# Altium schematic symbol library IC.SCHLIB: 146 symbols (part 1 of 2)
Pins are listed as number, name and electrical type; pins without a type are passive.

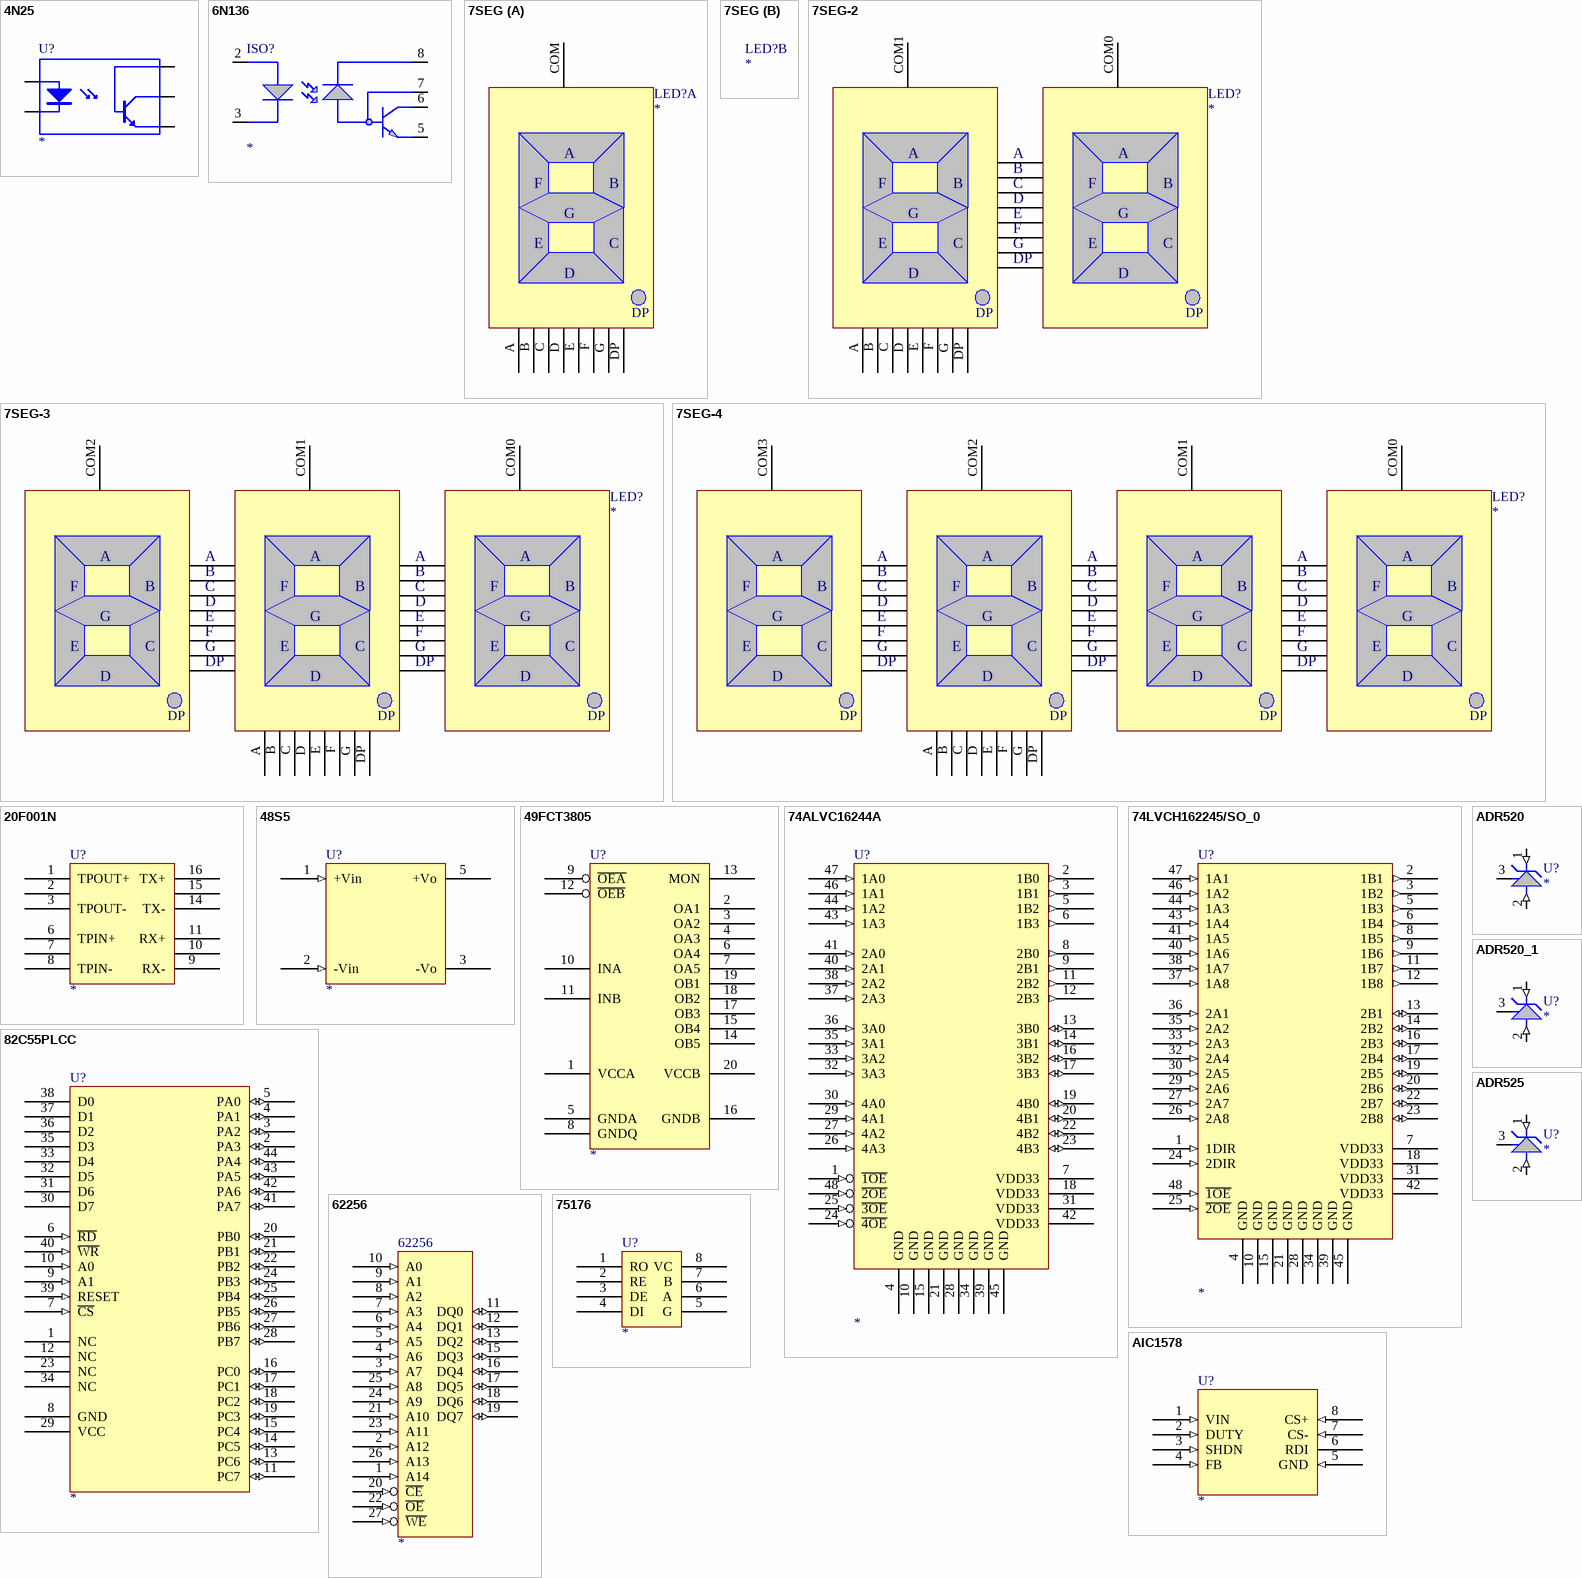
[diagram p0: symbols 4N25 to AIC1578]

## 4N25
designator U?
Optoisolator
pins: 1 A, 2 K, 4 E, 5 C, 6 B

## 6N136
designator ISO?
Text Field1: 110; Text Field2: 50
pins: 2, 3, 5, 6, 7, 8

## 7SEG
designator LED?
7SEG LED DIGIT
footprint 7SEG.5
footprint 7SEG.36
part A pins: A, B, C, COM, D, DP, E, F, G

## 7SEG-2
designator LED?
pins: A, B, C, COM0, COM1, D, DP, E, F, G

## 7SEG-3
designator LED?
LED
footprint SP2204019
pins: A, B, C, COM0, COM1, COM2, D, DP, E, F, G

## 7SEG-4
designator LED?
pins: A, B, C, COM0, COM1, COM2, COM3, D, DP, E, F, G

## 20F001N
designator U?
footprint DIP16
pins: 1 TPOUT+, 2, 3 TPOUT-, 6 TPIN+, 7, 8 TPIN-, 9 RX-, 10, 11 RX+, 14 TX-, 15, 16 TX+

## 48S5
designator U?
Text Field1: 80; Text Field2: 80
pins: 1 +Vin (in), 2 -Vin (in), 3 -Vo (power), 4 NC (hiz) hidden to NC, 5 +Vo (power)

## 49FCT3805
designator U?
3.3V CMOS BUFFER/CLOCK DRIVER
footprint SO20
pins: 1 VCCA, 2 OA1, 3 OA2, 4 OA3, 5 GNDA, 6 OA4, 7 OA5, 8 GNDQ, 9 ~{OEA}, 10 INA, 11 INB, 12 ~{OEB}, 13 MON, 14 OB5, 15 OB4, 16 GNDB, 17 OB3, 18 OB2, 19 OB1, 20 VCCB

## 74ALVC16244A
designator U?
74ALVC16244A; Text Field1: 110; Text Field2: 240
footprint TSSOP48
footprint SSOP48
pins: 1 ~{1OE} (in), 2 1B0 (out), 3 1B1 (out), 4 GND (power), 5 1B2 (out), 6 1B3 (out), 7 VDD33 (power), 8 2B0 (out), 9 2B1 (out), 10 GND (power), 11 2B2 (out), 12 2B3 (out), 13 3B0 (io), 14 3B1 (io), 15 GND (power), 16 3B2 (io), 17 3B3 (io), 18 VDD33 (power), 19 4B0 (io), 20 4B1 (io), 21 GND (power), 22 4B2 (io), 23 4B3 (io), 24 ~{4OE} (in), 25 ~{3OE} (in), 26 4A3 (in), 27 4A2 (in), 28 GND (power), 29 4A1 (in), 30 4A0 (in), 31 VDD33 (power), 32 3A3 (in), 33 3A2 (in), 34 GND (power), 35 3A1 (in), 36 3A0 (in), 37 2A3 (in), 38 2A2 (in), 39 GND (power), 40 2A1 (in), 41 2A0 (in), 42 VDD33 (power), 43 1A3 (in), 44 1A2 (in), 45 GND (power), 46 1A1 (in), 47 1A0 (in), 48 ~{2OE} (in)

## 74LVCH162245/SO_0
designator U?
Text Field1: 110; Text Field2: 240
footprint TSSOP48
footprint SSOP48
pins: 1 1DIR (in), 2 1B1 (out), 3 1B2 (out), 4 GND (power), 5 1B3 (out), 6 1B4 (out), 7 VDD33 (power), 8 1B5 (out), 9 1B6 (out), 10 GND (power), 11 1B7 (out), 12 1B8 (out), 13 2B1 (io), 14 2B2 (io), 15 GND (power), 16 2B3 (io), 17 2B4 (io), 18 VDD33 (power), 19 2B5 (io), 20 2B6 (io), 21 GND (power), 22 2B7 (io), 23 2B8 (io), 24 2DIR (in), 25 ~{2OE} (in), 26 2A8 (in), 27 2A7 (in), 28 GND (power), 29 2A6 (in), 30 2A5 (in), 31 VDD33 (power), 32 2A4 (in), 33 2A3 (in), 34 GND (power), 35 2A2 (in), 36 2A1 (in), 37 1A8 (in), 38 1A7 (in), 39 GND (power), 40 1A6 (in), 41 1A5 (in), 42 VDD33 (power), 43 1A4 (in), 44 1A3 (in), 45 GND (power), 46 1A2 (in), 47 1A1 (in), 48 ~{1OE} (in)

## 82C55PLCC
designator U?
footprint DIP-40
pins: 1 NC, 2 PA3 (io), 3 PA2 (io), 4 PA1 (io), 5 PA0 (io), 6 ~{RD} (in), 7 ~{CS} (in), 8 GND, 9 A1 (in), 10 A0 (in), 11 PC7 (io), 12 NC, 13 PC6 (io), 14 PC5 (io), 15 PC4 (io), 16 PC0 (io), 17 PC1 (io), 18 PC2 (io), 19 PC3 (io), 20 PB0 (io), 21 PB1 (io), 22 PB2 (io), 23 NC, 24 PB3 (io), 25 PB4 (io), 26 PB5 (io), 27 PB6 (io), 28 PB7 (io), 29 VCC, 30 D7 (hiz), 31 D6 (hiz), 32 D5 (hiz), 33 D4 (hiz), 34 NC, 35 D3 (hiz), 36 D2 (hiz), 37 D1 (hiz), 38 D0 (hiz), 39 RESET (in), 40 ~{WR} (in), 41 PA7 (io), 42 PA6 (io), 43 PA5 (io), 44 PA4 (io)

## 62256
designator 62256
pins: 1 A14 (in), 2 A12 (in), 3 A7 (in), 4 A6 (in), 5 A5 (in), 6 A4 (in), 7 A3 (in), 8 A2 (in), 9 A1 (in), 10 A0 (in), 11 DQ0 (io), 12 DQ1 (io), 13 DQ2 (io), 14 GND (power) hidden to GND, 15 DQ3 (io), 16 DQ4 (io), 17 DQ5 (io), 18 DQ6 (io), 19 DQ7 (io), 20 ~{CE} (in), 21 A10 (in), 22 ~{OE} (in), 23 A11 (in), 24 A9 (in), 25 A8 (in), 26 A13 (in), 27 ~{WE} (in), 28 VCC hidden to VCC, 28 VCC (power) hidden to VCC

## 75176
designator U?
footprint SO8
pins: 1 RO, 2 RE, 3 DE, 4 DI, 5 G, 6 A, 7 B, 8 VC

## ADR520
designator U?
Text Field1: 22; Text Field2: 22
footprint SOT23
pins: 1 K (in), 2 A (in), 3 R

## ADR520_1
designator U?
Text Field1: 22; Text Field2: 22
footprint SOT23
pins: 1 K (in), 2 A (in), 3 R

## ADR525
designator U?
Text Field1: 22; Text Field2: 22
footprint SOT23
pins: 1 K (in), 2 A (in), 3 R

## AIC1578
designator U?
Text Field1: 80; Text Field2: 70
pins: 1 VIN (in), 2 DUTY (in), 3 SHDN (in), 4 FB (in), 5 GND (in), 6 RDI, 7 CS- (in), 8 CS+ (in)

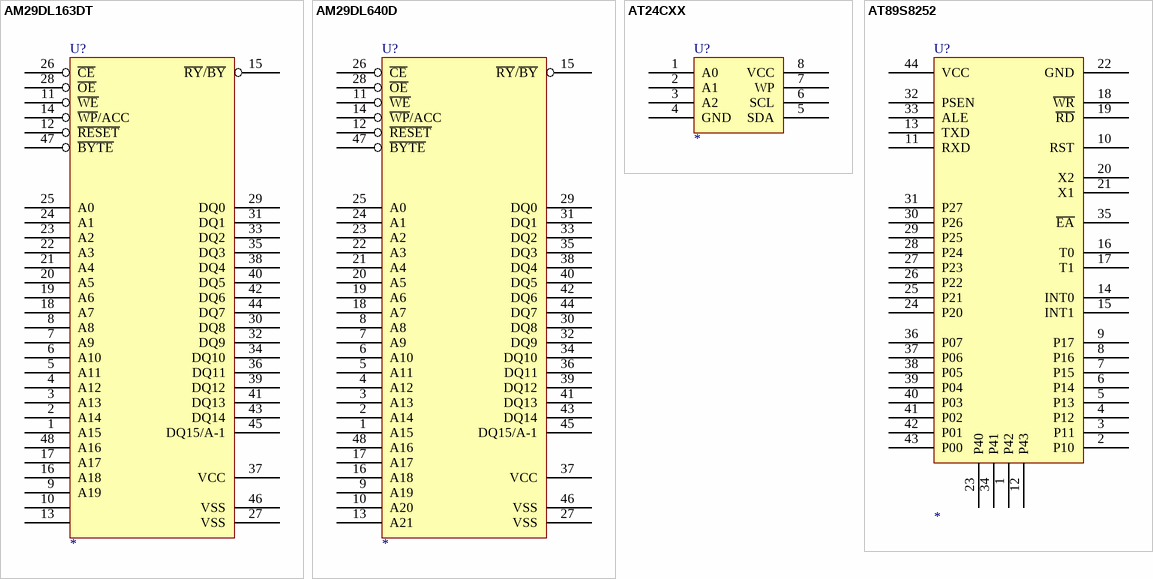
[diagram p1: symbols AM29DL163DT to AT89S8252]

## AM29DL163DT
designator U?
64 Megabit (8 M x 8-Bit/4 M x 16-Bit)CMOS 3.0 Volt-only, Simultaneous Read/Write Flash Memory
footprint TSOP48
pins: 1 A15, 2 A14, 3 A13, 4 A12, 5 A11, 6 A10, 7 A9, 8 A8, 9 A19, 10, 11 ~{WE}, 12 ~{RESET}, 13, 14 ~{WP}/ACC, 15 ~{RY}/~{BY}, 16 A18, 17 A17, 18 A7, 19 A6, 20 A5, 21 A4, 22 A3, 23 A2, 24 A1, 25 A0, 26 ~{CE}, 27 VSS, 28 ~{OE}, 29 DQ0, 30 DQ8, 31 DQ1, 32 DQ9, 33 DQ2, 34 DQ10, 35 DQ3, 36 DQ11, 37 VCC, 38 DQ4, 39 DQ12, 40 DQ5, 41 DQ13, 42 DQ6, 43 DQ14, 44 DQ7, 45 DQ15/A-1, 46 VSS, 47 ~{BYTE}, 48 A16

## AM29DL640D
designator U?
64 Megabit (8 M x 8-Bit/4 M x 16-Bit)CMOS 3.0 Volt-only, Simultaneous Read/Write Flash Memory
footprint TSOP48
pins: 1 A15, 2 A14, 3 A13, 4 A12, 5 A11, 6 A10, 7 A9, 8 A8, 9 A19, 10 A20, 11 ~{WE}, 12 ~{RESET}, 13 A21, 14 ~{WP}/ACC, 15 ~{RY}/~{BY}, 16 A18, 17 A17, 18 A7, 19 A6, 20 A5, 21 A4, 22 A3, 23 A2, 24 A1, 25 A0, 26 ~{CE}, 27 VSS, 28 ~{OE}, 29 DQ0, 30 DQ8, 31 DQ1, 32 DQ9, 33 DQ2, 34 DQ10, 35 DQ3, 36 DQ11, 37 VCC, 38 DQ4, 39 DQ12, 40 DQ5, 41 DQ13, 42 DQ6, 43 DQ14, 44 DQ7, 45 DQ15/A-1, 46 VSS, 47 ~{BYTE}, 48 A16

## AT24CXX
designator U?
footprint DIP8
footprint SO-8
pins: 1 A0, 2 A1, 3 A2, 4 GND, 5 SDA, 6 SCL, 7 WP, 8 VCC

## AT89S8252
designator U?
footprint DIP40
footprint PLCC44
pins: 1 P42, 2 P10, 3 P11, 4 P12, 5 P13, 6 P14, 7 P15, 8 P16, 9 P17, 10 RST, 11 RXD, 12 P43, 13 TXD, 14 INT0, 15 INT1, 16 T0, 17 T1, 18 ~{WR}, 19 ~{RD}, 20 X2, 21 X1, 22 GND, 23 P40, 24 P20, 25 P21, 26 P22, 27 P23, 28 P24, 29 P25, 30 P26, 31 P27, 32 PSEN, 33 ALE, 34 P41, 35 ~{EA}, 36 P07, 37 P06, 38 P05, 39 P04, 40 P03, 41 P02, 42 P01, 43 P00, 44 VCC

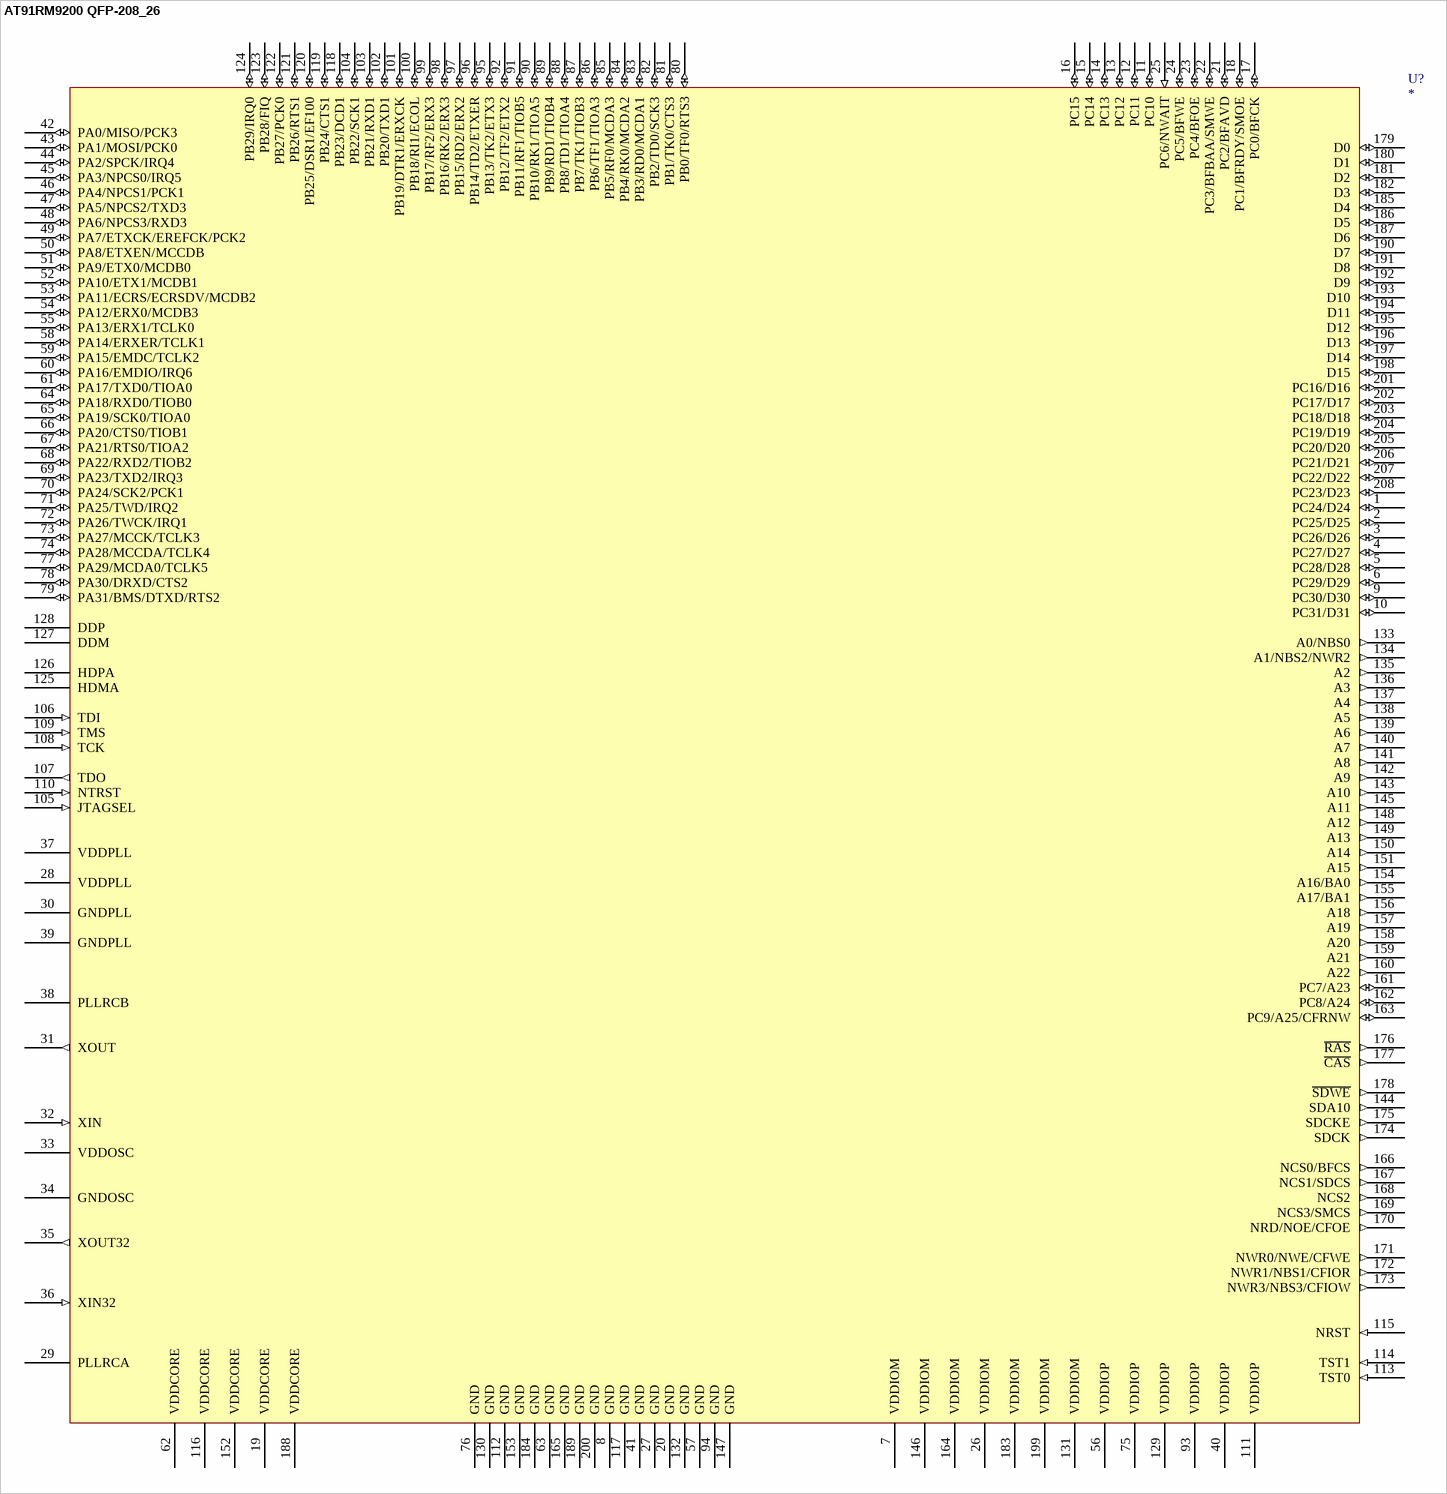
[diagram p2: symbol AT91RM9200 QFP-208_26]

## AT91RM9200 QFP-208_26
designator U?
Text Field1: 860; Text Field2: 890
footprint PQFP208
pins: 1 PC24/D24 (io), 2 PC25/D25 (io), 3 PC26/D26 (io), 4 PC27/D27 (io), 5 PC28/D28 (io), 6 PC29/D29 (io), 7 VDDIOM (power), 8 GND (power), 9 PC30/D30 (io), 10 PC31/D31 (io), 11 PC10 (io), 12 PC11 (io), 13 PC12 (io), 14 PC13 (io), 15 PC14 (io), 16 PC15 (io), 17 PC0/BFCK (io), 18 PC1/BFRDY/SMOE (io), 19 VDDCORE (power), 20 GND (power), 21 PC2/BFAVD (io), 22 PC3/BFBAA/SMWE (io), 23 PC4/BFOE (io), 24 PC5/BFWE (io), 25 PC6/NWAIT (in), 26 VDDIOM (power), 27 GND (power), 28 VDDPLL (power), 29 PLLRCA (power), 30 GNDPLL (power), 31 XOUT (out), 32 XIN (in), 33 VDDOSC (power), 34 GNDOSC (power), 35 XOUT32 (out), 36 XIN32 (in), 37 VDDPLL (power), 38 PLLRCB (power), 39 GNDPLL (power), 40 VDDIOP (power), 41 GND (power), 42 PA0/MISO/PCK3 (io), 43 PA1/MOSI/PCK0 (io), 44 PA2/SPCK/IRQ4 (io), 45 PA3/NPCS0/IRQ5 (io), 46 PA4/NPCS1/PCK1 (io), 47 PA5/NPCS2/TXD3 (io), 48 PA6/NPCS3/RXD3 (io), 49 PA7/ETXCK/EREFCK/PCK2 (io), 50 PA8/ETXEN/MCCDB (io), 51 PA9/ETX0/MCDB0 (io), 52 PA10/ETX1/MCDB1 (io), 53 PA11/ECRS/ECRSDV/MCDB2 (io), 54 PA12/ERX0/MCDB3 (io), 55 PA13/ERX1/TCLK0 (io), 56 VDDIOP (power), 57 GND (power), 58 PA14/ERXER/TCLK1 (io), 59 PA15/EMDC/TCLK2 (io), 60 PA16/EMDIO/IRQ6 (io), 61 PA17/TXD0/TIOA0 (io), 62 VDDCORE (power), 63 GND (power), 64 PA18/RXD0/TIOB0 (io), 65 PA19/SCK0/TIOA0 (io), 66 PA20/CTS0/TIOB1 (io), 67 PA21/RTS0/TIOA2 (io), 68 PA22/RXD2/TIOB2 (io), 69 PA23/TXD2/IRQ3 (io), 70 PA24/SCK2/PCK1 (io), 71 PA25/TWD/IRQ2 (io), 72 PA26/TWCK/IRQ1 (io), 73 PA27/MCCK/TCLK3 (io), 74 PA28/MCCDA/TCLK4 (io), 75 VDDIOP (power), 76 GND (power), 77 PA29/MCDA0/TCLK5 (io), 78 PA30/DRXD/CTS2 (io), 79 PA31/BMS/DTXD/RTS2 (io), 80 PB0/TF0/RTS3 (io), 81 PB1/TK0/CTS3 (io), 82 PB2/TD0/SCK3 (io), 83 PB3/RD0/MCDA1 (io), 84 PB4/RK0/MCDA2 (io), 85 PB5/RF0/MCDA3 (io), 86 PB6/TF1/TIOA3 (io), 87 PB7/TK1/TIOB3 (io), 88 PB8/TD1/TIOA4 (io), 89 PB9/RD1/TIOB4 (io), 90 PB10/RK1/TIOA5 (io), 91 PB11/RF1/TIOB5 (io), 92 PB12/TF2/ETX2 (io), 93 VDDIOP (power), 94 GND (power), 95 PB13/TK2/ETX3 (io), 96 PB14/TD2/ETXER (io), 97 PB15/RD2/ERX2 (io), 98 PB16/RK2/ERX3 (io), 99 PB17/RF2/ERX3 (io), 100 PB18/RI1/ECOL (io), 101 PB19/DTR1/ERXCK (io), 102 PB20/TXD1 (io), 103 PB21/RXD1 (io), 104 PB22/SCK1 (io), 105 JTAGSEL (in), 106 TDI (in), 107 TDO (out), 108 TCK (in), 109 TMS (in), 110 NTRST (in), 111 VDDIOP (power), 112 GND (power), 113 TST0 (in), 114 TST1 (in), 115 NRST (in), 116 VDDCORE (power), 117 GND (power), 118 PB23/DCD1 (io), 119 PB24/CTS1 (io), 120 PB25/DSR1/EF100 (io), 121 PB26/RTS1 (io), 122 PB27/PCK0 (io), 123 PB28/FIQ (io), 124 PB29/IRQ0 (io), 125 HDMA, 126 HDPA, 127 DDM, 128 DDP, 129 VDDIOP (power), 130 GND (power), 131 VDDIOM (power), 132 GND (power), 133 A0/NBS0 (out), 134 A1/NBS2/NWR2 (out), 135 A2 (out), 136 A3 (out), 137 A4 (out), 138 A5 (out), 139 A6 (out), 140 A7 (out), 141 A8 (out), 142 A9 (out), 143 A10 (out), 144 SDA10 (out), 145 A11 (out), 146 VDDIOM (power), 147 GND (power), 148 A12 (out), 149 A13 (out), 150 A14 (out), 151 A15 (out), 152 VDDCORE (power), 153 GND (power), 154 A16/BA0 (out), 155 A17/BA1 (out), 156 A18 (out), 157 A19 (out), 158 A20 (out), 159 A21 (out), 160 A22 (out), 161 PC7/A23 (io), 162 PC8/A24 (io), 163 PC9/A25/CFRNW (io), 164 VDDIOM (power), 165 GND (power), 166 NCS0/BFCS (out), 167 NCS1/SDCS (out), 168 NCS2 (out), 169 NCS3/SMCS (out), 170 NRD/NOE/CFOE (out), 171 NWR0/NWE/CFWE (out), 172 NWR1/NBS1/CFIOR (out), 173 NWR3/NBS3/CFIOW (out), 174 SDCK (out), 175 SDCKE (out), 176 ~{RAS} (out), 177 ~{CAS} (out), 178 ~{SDWE} (out), 179 D0 (io), 180 D1 (io), 181 D2 (io), 182 D3 (io), 183 VDDIOM (power), 184 GND (power), 185 D4 (io), 186 D5 (io), 187 D6 (io), 188 VDDCORE (power), 189 GND (power), 190 D7 (io), 191 D8 (io), 192 D9 (io), 193 D10 (io), 194 D11 (io), 195 D12 (io), 196 D13 (io), 197 D14 (io), 198 D15 (io), 199 VDDIOM (power), 200 GND (power), 201 PC16/D16 (io), 202 PC17/D17 (io), 203 PC18/D18 (io), 204 PC19/D19 (io), 205 PC20/D20 (io), 206 PC21/D21 (io), 207 PC22/D22 (io), 208 PC23/D23 (io)
text: AT91RM9200 QFP 208

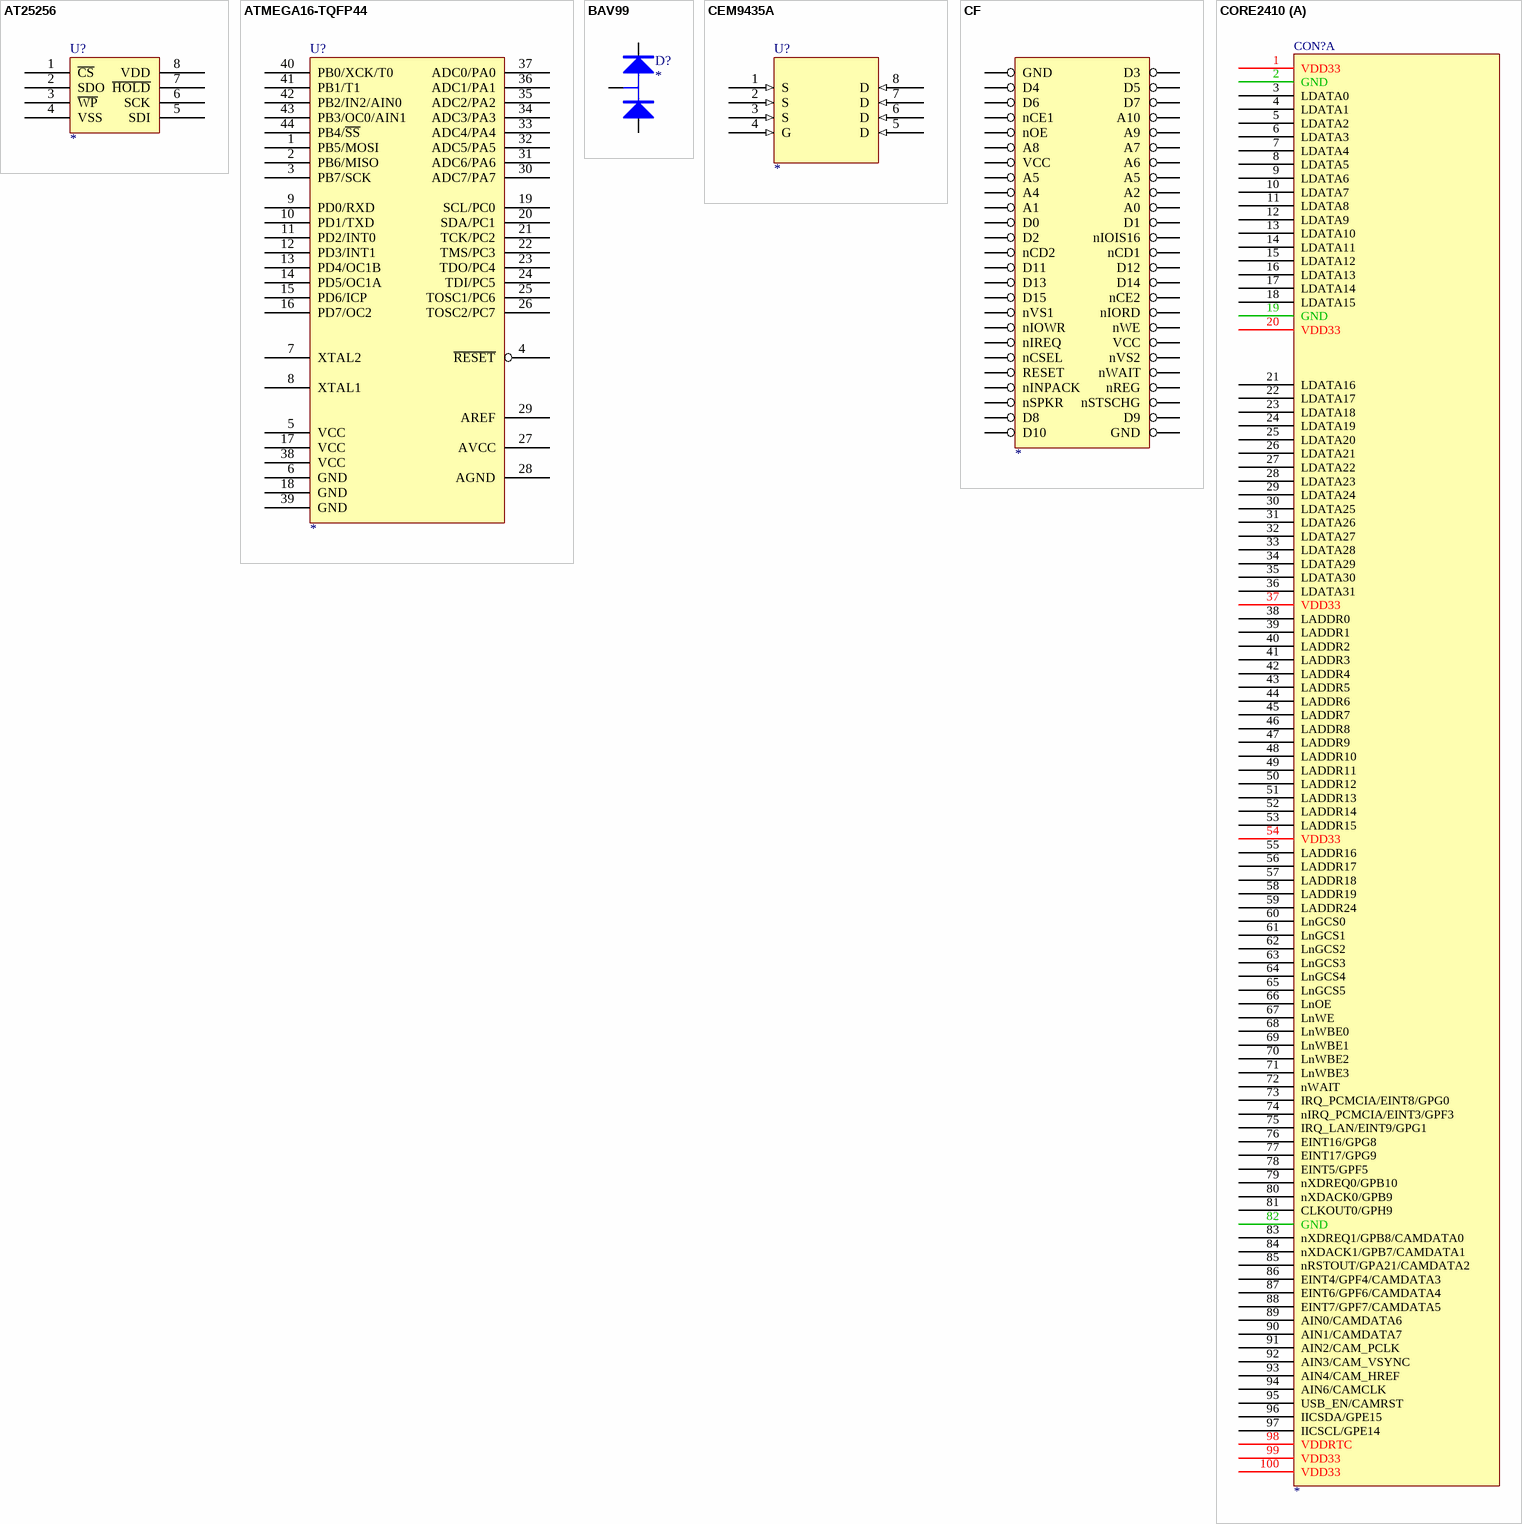
[diagram p3: symbols AT25256 to CORE2410]

## AT25256
designator U?
footprint DIP8
footprint SO-8
pins: 1 ~{CS}, 2 SDO, 3 ~{WP}, 4 VSS, 5 SDI, 6 SCK, 7 ~{HOLD}, 8 VDD

## ATMEGA16-TQFP44
designator U?
Text Field1: 130; Text Field2: 310
footprint TQFP44
pins: 1 PB5/MOSI, 2 PB6/MISO, 3 PB7/SCK, 4 ~{RESET}, 5 VCC (power), 6 GND (power), 7 XTAL2, 8 XTAL1, 9 PD0/RXD, 10 PD1/TXD, 11 PD2/INT0, 12 PD3/INT1, 13 PD4/OC1B, 14 PD5/OC1A, 15 PD6/ICP, 16 PD7/OC2, 17 VCC (power), 18 GND (power), 19 SCL/PC0, 20 SDA/PC1, 21 TCK/PC2, 22 TMS/PC3, 23 TDO/PC4, 24 TDI/PC5, 25 TOSC1/PC6, 26 TOSC2/PC7, 27 AVCC, 28 AGND, 29 AREF, 30 ADC7/PA7, 31 ADC6/PA6, 32 ADC5/PA5, 33 ADC4/PA4, 34 ADC3/PA3, 35 ADC2/PA2, 36 ADC1/PA1, 37 ADC0/PA0, 38 VCC (power), 39 GND (power), 40 PB0/XCK/T0, 41 PB1/T1, 42 PB2/IN2/AIN0, 43 PB3/OC0/AIN1, 44 PB4/~{SS}

## BAV99
designator D?
footprint SOT23
pins: 1 A, 2 K, 3 C

## CEM9435A
designator U?
Text Field1: 70; Text Field2: 70
footprint SO-8
pins: 1 S (in), 2 S (in), 3 S (in), 4 G (in), 5 D (in), 6 D (in), 7 D (in), 8 D (in)

## CF
designator ?
pins: 1 GND, 2 D3, 3 D4, 4 D5, 5 D6, 6 D7, 7 nCE1, 8 A10, 9 nOE, 10 A9, 11 A8, 12 A7, 13 VCC, 14 A6, 15 A5, 16 A5, 17 A4, 18 A2, 19 A1, 20 A0, 21 D0, 22 D1, 23 D2, 24 nIOIS16, 25 nCD2, 26 nCD1, 27 D11, 28 D12, 29 D13, 30 D14, 31 D15, 32 nCE2, 33 nVS1, 34 nIORD, 35 nIOWR, 36 nWE, 37 nIREQ, 38 VCC, 39 nCSEL, 40 nVS2, 41 RESET, 42 nWAIT, 43 nINPACK, 44 nREG, 45 nSPKR, 46 nSTSCHG, 47 D8, 48 D9, 49 D10, 50 GND

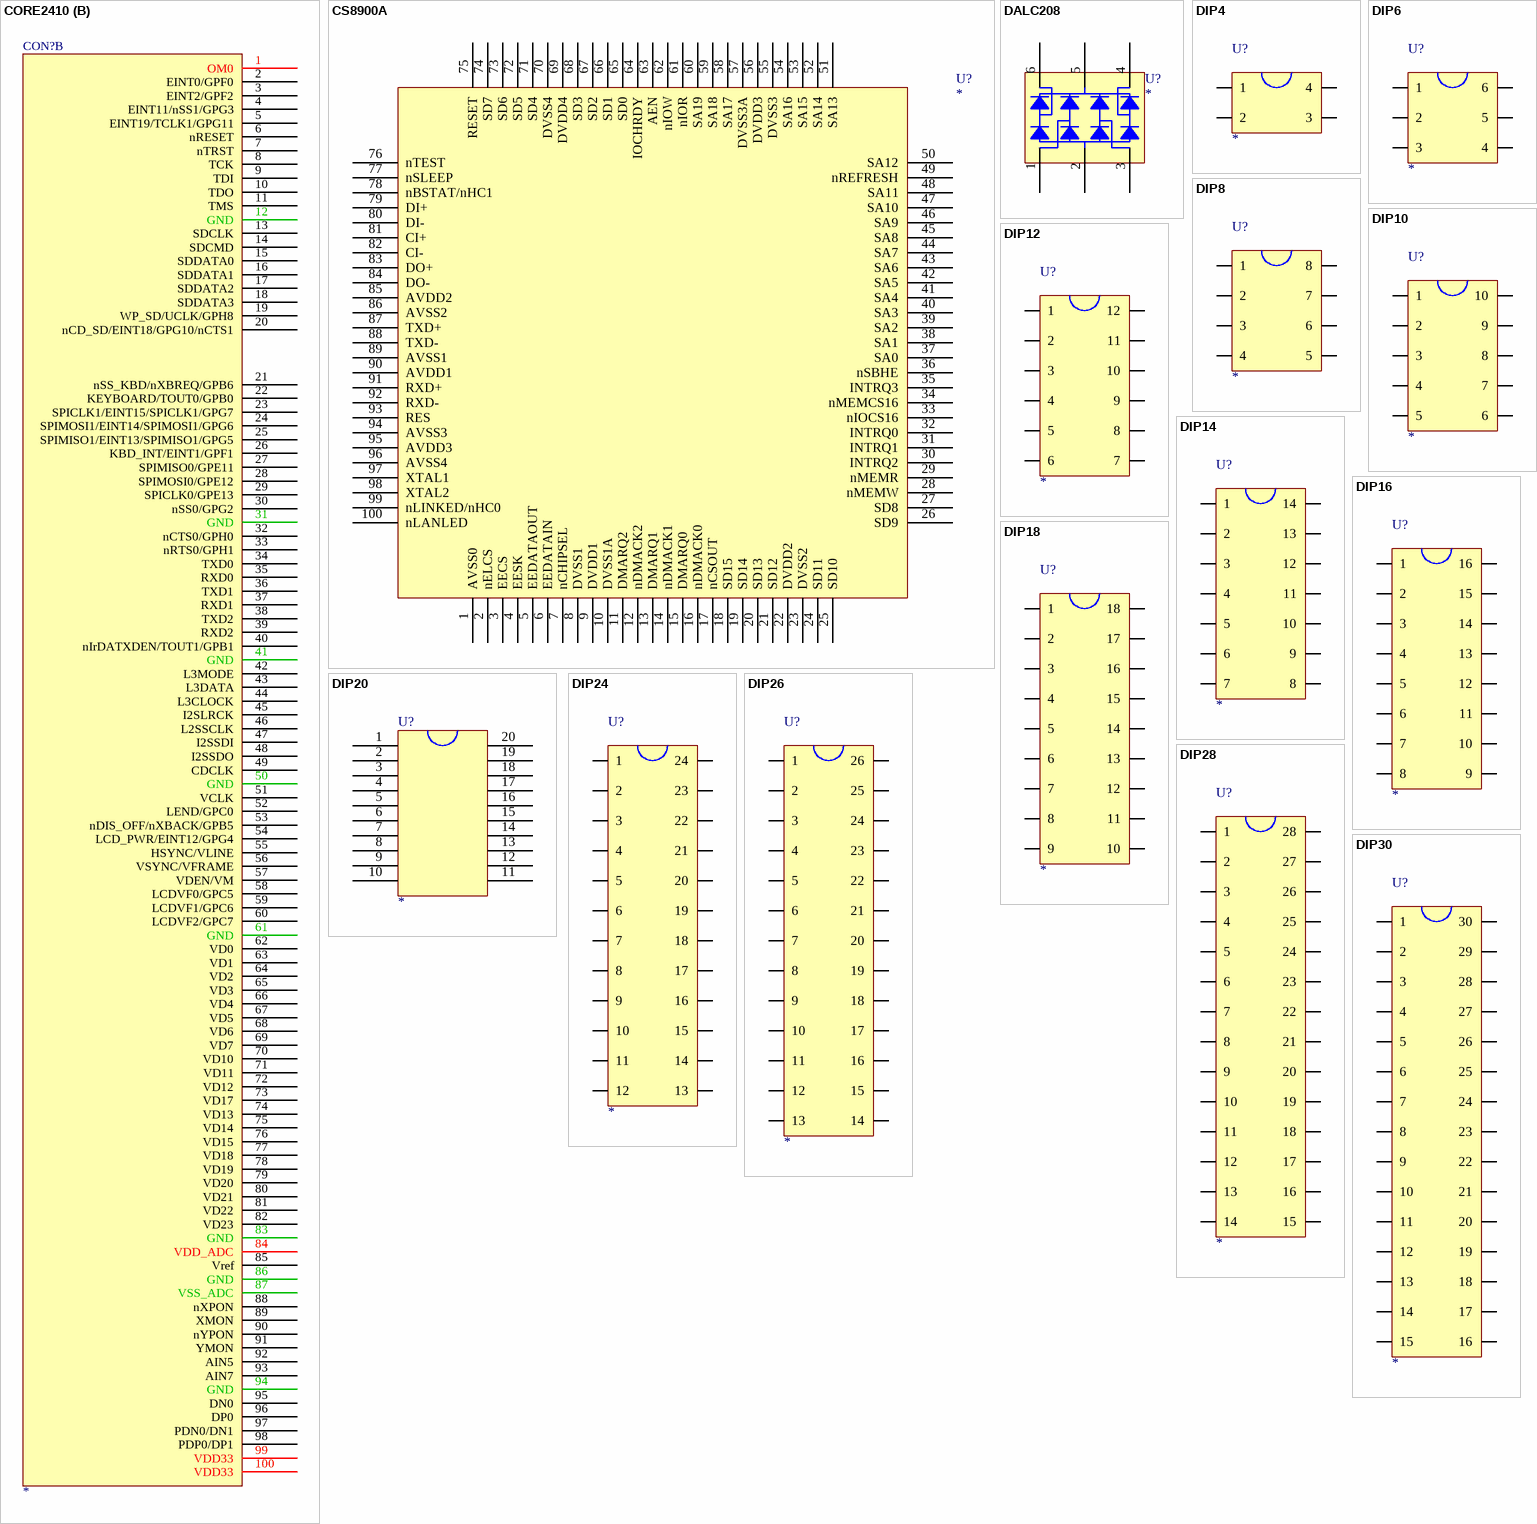
[diagram p4: symbols CORE2410 to DIP30]

## CORE2410
designator CON?
footprint 201-1.0-100
part A pins: 1 VDD33, 2 GND, 3 LDATA0, 4 LDATA1, 5 LDATA2, 6 LDATA3, 7 LDATA4, 8 LDATA5, 9 LDATA6, 10 LDATA7, 11 LDATA8, 12 LDATA9, 13 LDATA10, 14 LDATA11, 15 LDATA12, 16 LDATA13, 17 LDATA14, 18 LDATA15, 19 GND, 20 VDD33, 21 LDATA16, 22 LDATA17, 23 LDATA18, 24 LDATA19, 25 LDATA20, 26 LDATA21, 27 LDATA22, 28 LDATA23, 29 LDATA24, 30 LDATA25, 31 LDATA26, 32 LDATA27, 33 LDATA28, 34 LDATA29, 35 LDATA30, 36 LDATA31, 37 VDD33, 38 LADDR0, 39 LADDR1, 40 LADDR2, 41 LADDR3, 42 LADDR4, 43 LADDR5, 44 LADDR6, 45 LADDR7, 46 LADDR8, 47 LADDR9, 48 LADDR10, 49 LADDR11, 50 LADDR12, 51 LADDR13, 52 LADDR14, 53 LADDR15, 54 VDD33, 55 LADDR16, 56 LADDR17, 57 LADDR18, 58 LADDR19, 59 LADDR24, 60 LnGCS0, 61 LnGCS1, 62 LnGCS2, 63 LnGCS3, 64 LnGCS4, 65 LnGCS5, 66 LnOE, 67 LnWE, 68 LnWBE0, 69 LnWBE1, 70 LnWBE2, 71 LnWBE3, 72 nWAIT, 73 IRQ_PCMCIA/EINT8/GPG0, 74 nIRQ_PCMCIA/EINT3/GPF3, 75 IRQ_LAN/EINT9/GPG1, 76 EINT16/GPG8, 77 EINT17/GPG9, 78 EINT5/GPF5, 79 nXDREQ0/GPB10, 80 nXDACK0/GPB9, 81 CLKOUT0/GPH9, 82 GND, 83 nXDREQ1/GPB8/CAMDATA0, 84 nXDACK1/GPB7/CAMDATA1, 85 nRSTOUT/GPA21/CAMDATA2, 86 EINT4/GPF4/CAMDATA3, 87 EINT6/GPF6/CAMDATA4, 88 EINT7/GPF7/CAMDATA5, 89 AIN0/CAMDATA6, 90 AIN1/CAMDATA7, 91 AIN2/CAM_PCLK, 92 AIN3/CAM_VSYNC, 93 AIN4/CAM_HREF, 94 AIN6/CAMCLK, 95 USB_EN/CAMRST, 96 IICSDA/GPE15, 97 IICSCL/GPE14, 98 VDDRTC, 99 VDD33, 100 VDD33
part B pins: 1 OM0, 2 EINT0/GPF0, 3 EINT2/GPF2, 4 EINT11/nSS1/GPG3, 5 EINT19/TCLK1/GPG11, 6 nRESET, 7 nTRST, 8 TCK, 9 TDI, 10 TDO, 11 TMS, 12 GND, 13 SDCLK, 14 SDCMD, 15 SDDATA0, 16 SDDATA1, 17 SDDATA2, 18 SDDATA3, 19 WP_SD/UCLK/GPH8, 20 nCD_SD/EINT18/GPG10/nCTS1, 21 nSS_KBD/nXBREQ/GPB6, 22 KEYBOARD/TOUT0/GPB0, 23 SPICLK1/EINT15/SPICLK1/GPG7, 24 SPIMOSI1/EINT14/SPIMOSI1/GPG6, 25 SPIMISO1/EINT13/SPIMISO1/GPG5, 26 KBD_INT/EINT1/GPF1, 27 SPIMISO0/GPE11, 28 SPIMOSI0/GPE12, 29 SPICLK0/GPE13, 30 nSS0/GPG2, 31 GND, 32 nCTS0/GPH0, 33 nRTS0/GPH1, 34 TXD0, 35 RXD0, 36 TXD1, 37 RXD1, 38 TXD2, 39 RXD2, 40 nIrDATXDEN/TOUT1/GPB1, 41 GND, 42 L3MODE, 43 L3DATA, 44 L3CLOCK, 45 I2SLRCK, 46 L2SSCLK, 47 I2SSDI, 48 I2SSDO, 49 CDCLK, 50 GND, 51 VCLK, 52 LEND/GPC0, 53 nDIS_OFF/nXBACK/GPB5, 54 LCD_PWR/EINT12/GPG4, 55 HSYNC/VLINE, 56 VSYNC/VFRAME, 57 VDEN/VM, 58 LCDVF0/GPC5, 59 LCDVF1/GPC6, 60 LCDVF2/GPC7, 61 GND, 62 VD0, 63 VD1, 64 VD2, 65 VD3, 66 VD4, 67 VD5, 68 VD6, 69 VD7, 70 VD10, 71 VD11, 72 VD12, 73 VD17, 74 VD13, 75 VD14, 76 VD15, 77 VD18, 78 VD19, 79 VD20, 80 VD21, 81 VD22, 82 VD23, 83 GND, 84 VDD_ADC, 85 Vref, 86 GND, 87 VSS_ADC, 88 nXPON, 89 XMON, 90 nYPON, 91 YMON, 92 AIN5, 93 AIN7, 94 GND, 95 DN0, 96 DP0, 97 PDN0/DN1, 98 PDP0/DP1, 99 VDD33, 100 VDD33

## CS8900A
designator U?
Filename: *; Right: *; Bottom: *
footprint TQFP100
pins: 1 AVSS0, 2 nELCS, 3 EECS, 4 EESK, 5 EEDATAOUT, 6 EEDATAIN, 7 nCHIPSEL, 8 DVSS1, 9 DVDD1, 10 DVSS1A, 11 DMARQ2, 12 nDMACK2, 13 DMARQ1, 14 nDMACK1, 15 DMARQ0, 16 nDMACK0, 17 nCSOUT, 18 SD15, 19 SD14, 20 SD13, 21 SD12, 22 DVDD2, 23 DVSS2, 24 SD11, 25 SD10, 26 SD9, 27 SD8, 28 nMEMW, 29 nMEMR, 30 INTRQ2, 31 INTRQ1, 32 INTRQ0, 33 nIOCS16, 34 nMEMCS16, 35 INTRQ3, 36 nSBHE, 37 SA0, 38 SA1, 39 SA2, 40 SA3, 41 SA4, 42 SA5, 43 SA6, 44 SA7, 45 SA8, 46 SA9, 47 SA10, 48 SA11, 49 nREFRESH, 50 SA12, 51 SA13, 52 SA14, 53 SA15, 54 SA16, 55 DVSS3, 56 DVDD3, 57 DVSS3A, 58 SA17, 59 SA18, 60 SA19, 61 nIOR, 62 nIOW, 63 AEN, 64 IOCHRDY, 65 SD0, 66 SD1, 67 SD2, 68 SD3, 69 DVDD4, 70 DVSS4, 71 SD4, 72 SD5, 73 SD6, 74 SD7, 75 RESET, 76 nTEST, 77 nSLEEP, 78 nBSTAT/nHC1, 79 DI+, 80 DI-, 81 CI+, 82 CI-, 83 DO+, 84 DO-, 85 AVDD2, 86 AVSS2, 87 TXD+, 88 TXD-, 89 AVSS1, 90 AVDD1, 91 RXD+, 92 RXD-, 93 RES, 94 AVSS3, 95 AVDD3, 96 AVSS4, 97 XTAL1, 98 XTAL2, 99 nLINKED/nHC0, 100 nLANLED
2 alternate drawings of the same symbol

## DALC208
designator U?
footprint SOT23-6
pins: 1, 2, 3, 4, 5, 6

## DIP4
designator U?
footprint DIP4
footprint SO4
footprint TSSOP4
pins: 1, 2, 3, 4

## DIP6
designator U?
footprint DIP6
footprint SO6
footprint TSSOP6
pins: 1, 2, 3, 4, 5, 6

## DIP8
designator U?
footprint DIP8
footprint SO8
footprint TSSOP8
pins: 1, 2, 3, 4, 5, 6, 7, 8

## DIP10
designator U?
footprint DIP10
footprint SO10
footprint TSSOP10
pins: 1, 2, 3, 4, 5, 6, 7, 8, 9, 10

## DIP12
designator U?
footprint DIP12
footprint SO12
footprint TSSOP12
pins: 1, 2, 3, 4, 5, 6, 7, 8, 9, 10, 11, 12

## DIP14
designator U?
footprint DIP14
footprint SO14
footprint TSSOP14
pins: 1, 2, 3, 4, 5, 6, 7, 8, 9, 10, 11, 12, 13, 14

## DIP16
designator U?
footprint DIP16
footprint SO16
footprint TSSOP16
pins: 1, 2, 3, 4, 5, 6, 7, 8, 9, 10, 11, 12, 13, 14, 15, 16

## DIP18
designator U?
footprint DIP18
footprint SO18
footprint TSSOP18
pins: 1, 2, 3, 4, 5, 6, 7, 8, 9, 10, 11, 12, 13, 14, 15, 16, 17, 18

## DIP20
designator U?
footprint DIP20
footprint SO20
footprint TSSOP20
pins: 1, 2, 3, 4, 5, 6, 7, 8, 9, 10, 11, 12, 13, 14, 15, 16, 17, 18, 19, 20

## DIP24
designator U?
footprint DIP24
footprint SO24
footprint TSSOP24
pins: 1, 2, 3, 4, 5, 6, 7, 8, 9, 10, 11, 12, 13, 14, 15, 16, 17, 18, 19, 20, 21, 22, 23, 24

## DIP26
designator U?
footprint DIP26
footprint SO26
footprint TSSOP26
pins: 1, 2, 3, 4, 5, 6, 7, 8, 9, 10, 11, 12, 13, 14, 15, 16, 17, 18, 19, 20, 21, 22, 23, 24, 25, 26

## DIP28
designator U?
footprint DIP28
footprint SO28
footprint TSSOP28
pins: 1, 2, 3, 4, 5, 6, 7, 8, 9, 10, 11, 12, 13, 14, 15, 16, 17, 18, 19, 20, 21, 22, 23, 24, 25, 26, 27, 28

## DIP30
designator U?
footprint DIP30
footprint SO30
footprint TSSOP30
pins: 1, 2, 3, 4, 5, 6, 7, 8, 9, 10, 11, 12, 13, 14, 15, 16, 17, 18, 19, 20, 21, 22, 23, 24, 25, 26, 27, 28, 29, 30

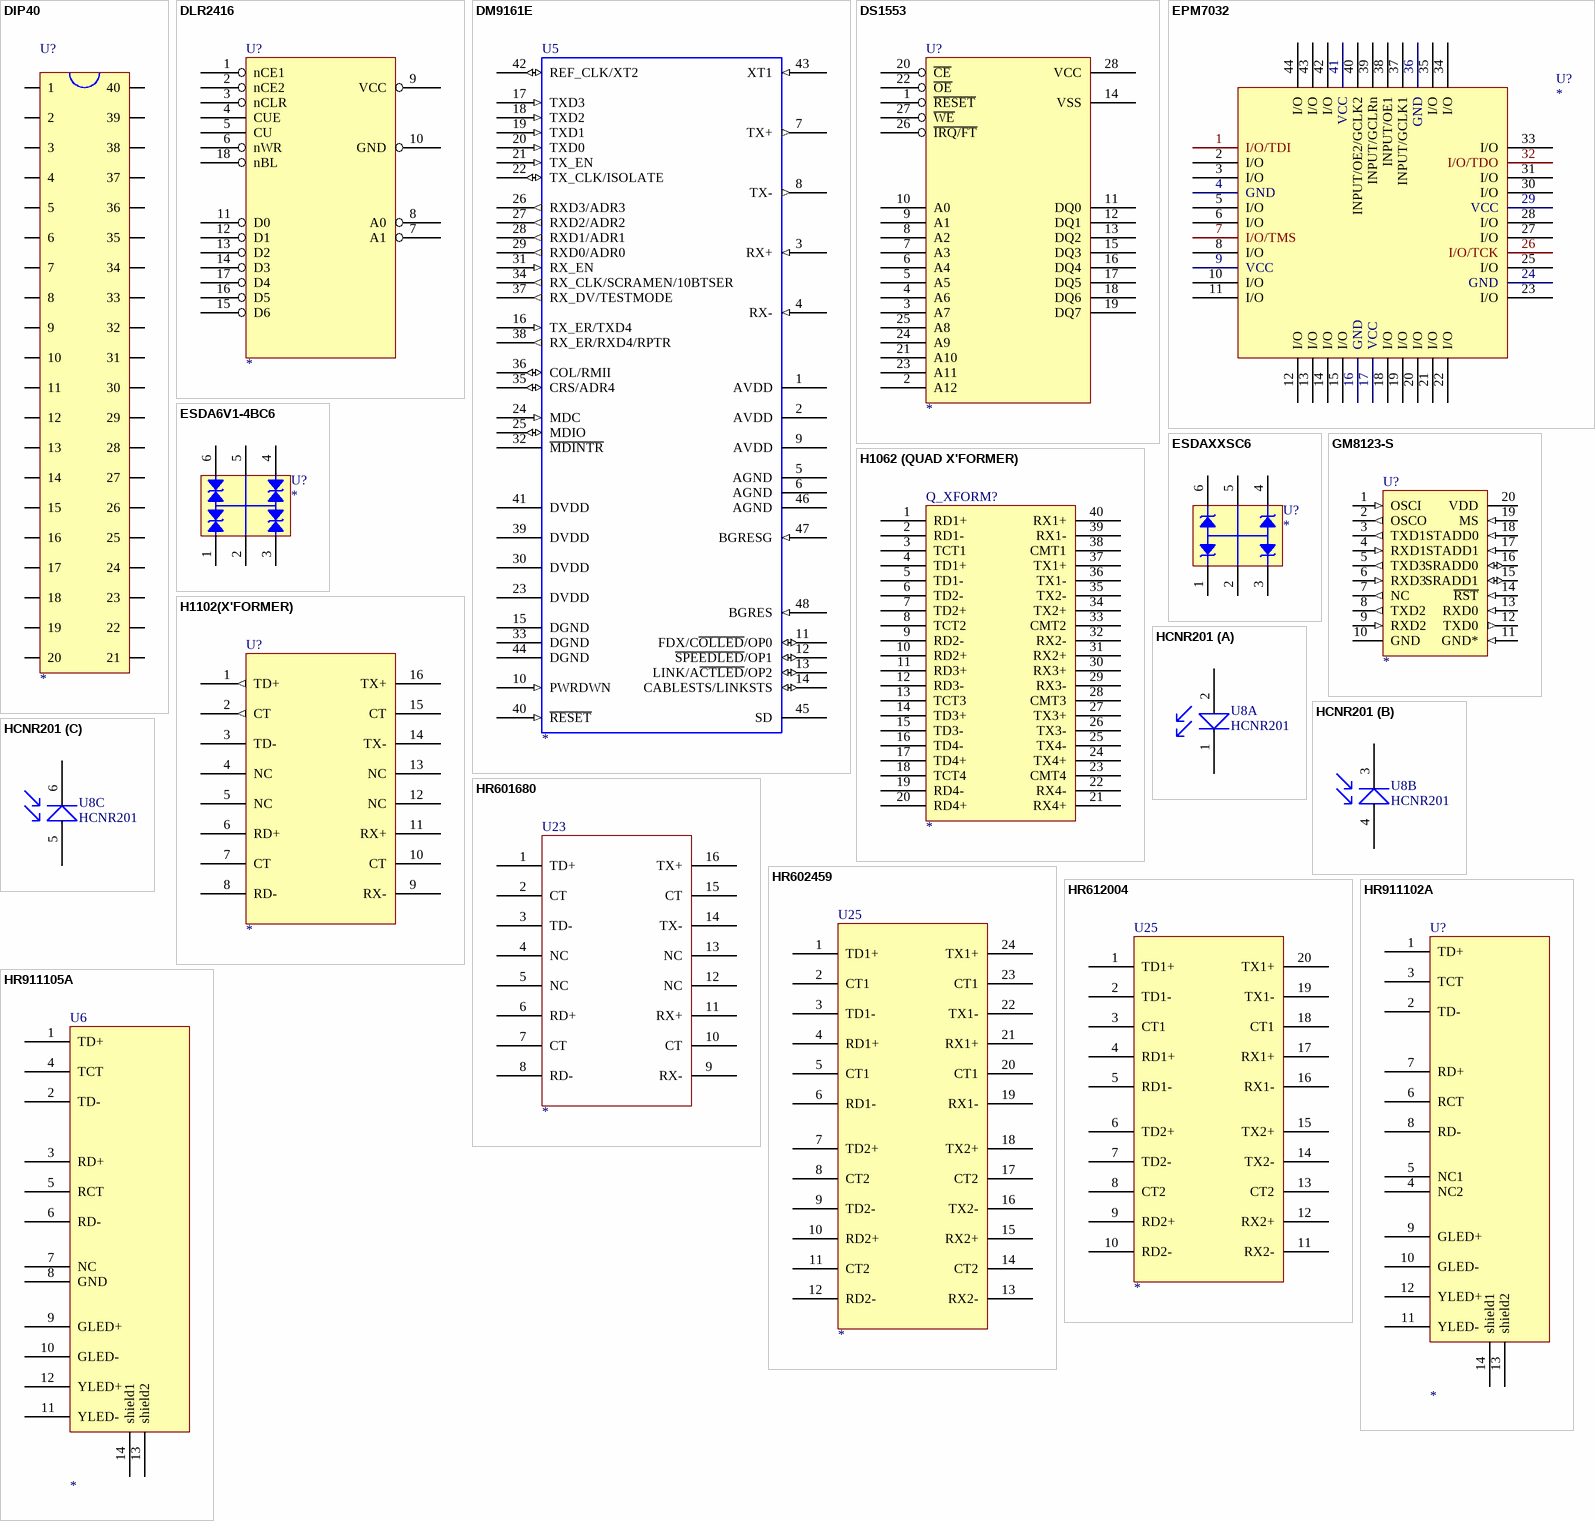
[diagram p5: symbols DIP40 to HR911105A]

## DIP40
designator U?
footprint DIP40
footprint SO40
footprint TSSOP40
pins: 1, 2, 3, 4, 5, 6, 7, 8, 9, 10, 11, 12, 13, 14, 15, 16, 17, 18, 19, 20, 21, 22, 23, 24, 25, 26, 27, 28, 29, 30, 31, 32, 33, 34, 35, 36, 37, 38, 39, 40

## DLR2416
designator U?
4-Character 5x7 Dot Matrix
pins: 1 nCE1, 2 nCE2, 3 nCLR, 4 CUE, 5 CU, 6 nWR, 7 A1, 8 A0, 9 VCC, 10 GND, 11 D0, 12 D1, 13 D2, 14 D3, 15 D6, 16 D5, 17 D4, 18 nBL

## DM9161E
designator U5
VAL: *; DEV: *; FAB: *; BOI: *; DESIG: *; REF: *; REV: *; Right: *; Bottom: *
footprint LQFP48
pins: 1 AVDD (power), 2 AVDD (power), 3 RX+ (in), 4 RX- (in), 5 AGND (power), 6 AGND (power), 7 TX+ (out), 8 TX- (out), 9 AVDD (power), 10 PWRDWN (in), 11 FDX/C~{OLLED}/OP0 (io), 12 ~{SPEEDLED}/OP1 (io), 13 LINK/A~{CTLED}/OP2 (io), 14 CABLESTS/LINKSTS (io), 15 DGND (power), 16 TX_ER/TXD4 (in), 17 TXD3 (in), 18 TXD2 (in), 19 TXD1 (in), 20 TXD0 (in), 21 TX_EN (in), 22 TX_CLK/ISOLATE (io), 23 DVDD (power), 24 MDC (in), 25 MDIO (io), 26 RXD3/ADR3 (out), 27 RXD2/ADR2 (out), 28 RXD1/ADR1 (out), 29 RXD0/ADR0 (out), 30 DVDD (power), 31 RX_EN (in), 32 ~{MDINTR} (hiz), 33 DGND (power), 34 RX_CLK/SCRAMEN/10BTSER (out), 35 CRS/ADR4 (io), 36 COL/RMII (io), 37 RX_DV/TESTMODE (out), 38 RX_ER/RXD4/RPTR (out), 39 DVDD (power), 40 ~{RESET} (in), 41 DVDD (power), 42 REF_CLK/XT2 (io), 43 XT1 (in), 44 DGND (power), 45 SD, 46 AGND (power), 47 BGRESG (in), 48 BGRES (in)
2 alternate drawings of the same symbol

## DS1553
designator U?
64kB, Nonvolatile, Year-2000-Compliant Timekeeping RAM
footprint DIP28
pins: 1 ~{RESET}, 2 A12, 3 A7, 4 A6, 5 A5, 6 A4, 7 A3, 8 A2, 9 A1, 10 A0, 11 DQ0, 12 DQ1, 13 DQ2, 14 GND (power) hidden to GND, 14 VSS, 15 DQ3, 16 DQ4, 17 DQ5, 18 DQ6, 19 DQ7, 20 ~{CE}, 21 A10, 22 ~{OE}, 23 A11, 24 A9, 25 A8, 26 ~{IRQ/FT}, 27 ~{WE}, 28 VCC hidden to VCC, 28 VCC (power) hidden to VCC, 28 VCC

## EPM7032
designator U?
footprint TQFP44
pins: 1 I/O/TDI, 2 I/O, 3 I/O, 4 GND, 5 I/O, 6 I/O, 7 I/O/TMS, 8 I/O, 9 VCC, 10 I/O, 11 I/O, 12 I/O, 13 I/O, 14 I/O, 15 I/O, 16 GND, 17 VCC, 18 I/O, 19 I/O, 20 I/O, 21 I/O, 22 I/O, 23 I/O, 24 GND, 25 I/O, 26 I/O/TCK, 27 I/O, 28 I/O, 29 VCC, 30 I/O, 31 I/O, 32 I/O/TDO, 33 I/O, 34 I/O, 35 I/O, 36 GND, 37 INPUT/GCLK1, 38 INPUT/OE1, 39 INPUT/GCLRn, 40 INPUT/OE2/GCLK2, 41 VCC, 42 I/O, 43 I/O, 44 I/O

## ESDA6V1-4BC6
designator U?
footprint SOT23-6
pins: 1, 2, 3, 4, 5, 6

## ESDAXXSC6
designator U?
footprint SOT23-6
pins: 1, 2, 3, 4, 5, 6

## GM8123-S
designator U?
footprint DIP20
footprint SOP20
footprint SSOP20
pins: 1 OSCI (in), 2 OSCO (out), 3 TXD1 (out), 4 RXD1 (in), 5 TXD3 (out), 6 RXD3 (in), 7 NC (out), 8 TXD2 (out), 9 RXD2 (in), 10 GND (power), 11 GND* (in), 12 TXD0 (out), 13 RXD0 (in), 14 ~{RST} (in), 15 SRADD1 (io), 16 SRADD0 (io), 17 STADD1 (in), 18 STADD0 (in), 19 MS (in), 20 VDD (power)

## H1062 (QUAD X'FORMER)
designator Q_XFORM?
Text Field1: 100; Text Field2: 210
pins: 1 RD1+, 2 RD1-, 3 TCT1, 4 TD1+, 5 TD1-, 6 TD2-, 7 TD2+, 8 TCT2, 9 RD2-, 10 RD2+, 11 RD3+, 12 RD3-, 13 TCT3, 14 TD3+, 15 TD3-, 16 TD4-, 17 TD4+, 18 TCT4, 19 RD4-, 20 RD4+, 21 RX4+, 22 RX4-, 23 CMT4, 24 TX4+, 25 TX4-, 26 TX3-, 27 TX3+, 28 CMT3, 29 RX3-, 30 RX3+, 31 RX2+, 32 RX2-, 33 CMT2, 34 TX2+, 35 TX2-, 36 TX1-, 37 TX1+, 38 CMT1, 39 RX1-, 40 RX1+

## H1102(X'FORMER)
designator U?
Text Field1: 100; Text Field2: 180
pins: 1 TD+ (out), 2 CT (out), 3 TD-, 4 NC, 5 NC, 6 RD+, 7 CT, 8 RD-, 9 RX-, 10 CT, 11 RX+, 12 NC, 13 NC, 14 TX-, 15 CT, 16 TX+

## HCNR201
designator U8
footprint SMD-8_9.0mm
part A pins: 1 -, 2 +
part B pins: 3 -, 4 +
part C pins: 5 +, 6 -
2 alternate drawings of the same symbol

## HR601680
designator U23
Text Field1: 100; Text Field2: 180
footprint HR-TRANS-A
pins: 1 TD+, 2 CT, 3 TD-, 4 NC, 5 NC, 6 RD+, 7 CT, 8 RD-, 9 RX-, 10 CT, 11 RX+, 12 NC, 13 NC, 14 TX-, 15 CT, 16 TX+
2 alternate drawings of the same symbol

## HR602459
designator U25
Text Field1: 100; Text Field2: 180
footprint HR-TRANS-E
pins: 1 TD1+, 2 CT1, 3 TD1-, 4 RD1+, 5 CT1, 6 RD1-, 7 TD2+, 8 CT2, 9 TD2-, 10 RD2+, 11 CT2, 12 RD2-, 13 RX2-, 14 CT2, 15 RX2+, 16 TX2-, 17 CT2, 18 TX2+, 19 RX1-, 20 CT1, 21 RX1+, 22 TX1-, 23 CT1, 24 TX1+
2 alternate drawings of the same symbol

## HR612004
designator U25
Text Field1: 100; Text Field2: 180
footprint HR-TRANS-E
pins: 1 TD1+, 2 TD1-, 3 CT1, 4 RD1+, 5 RD1-, 6 TD2+, 7 TD2-, 8 CT2, 9 RD2+, 10 RD2-, 11 RX2-, 12 RX2+, 13 CT2, 14 TX2-, 15 TX2+, 16 RX1-, 17 RX1+, 18 CT1, 19 TX1-, 20 TX1+
2 alternate drawings of the same symbol

## HR911102A
designator U?
RJ45 Connector with Integrated Magnetics; Text Field1: 80; Text Field2: 270
footprint HR911102A
footprint HANRUN-A8
pins: 1 TD+, 2 TD-, 3 TCT, 4 NC2, 5 NC1, 6 RCT, 7 RD+, 8 RD-, 9 GLED+, 10 GLED-, 11 YLED-, 12 YLED+, 13 shield2, 14 shield1
2 alternate drawings of the same symbol

## HR911105A
designator U6
RJ45 Connector with Integrated Magnetics; Text Field1: 80; Text Field2: 270
footprint HR911102A
footprint HANRUN-A8
pins: 1 TD+, 2 TD-, 3 RD+, 4 TCT, 5 RCT, 6 RD-, 7 NC, 8 GND, 9 GLED+, 10 GLED-, 11 YLED-, 12 YLED+, 13 shield2, 14 shield1
2 alternate drawings of the same symbol

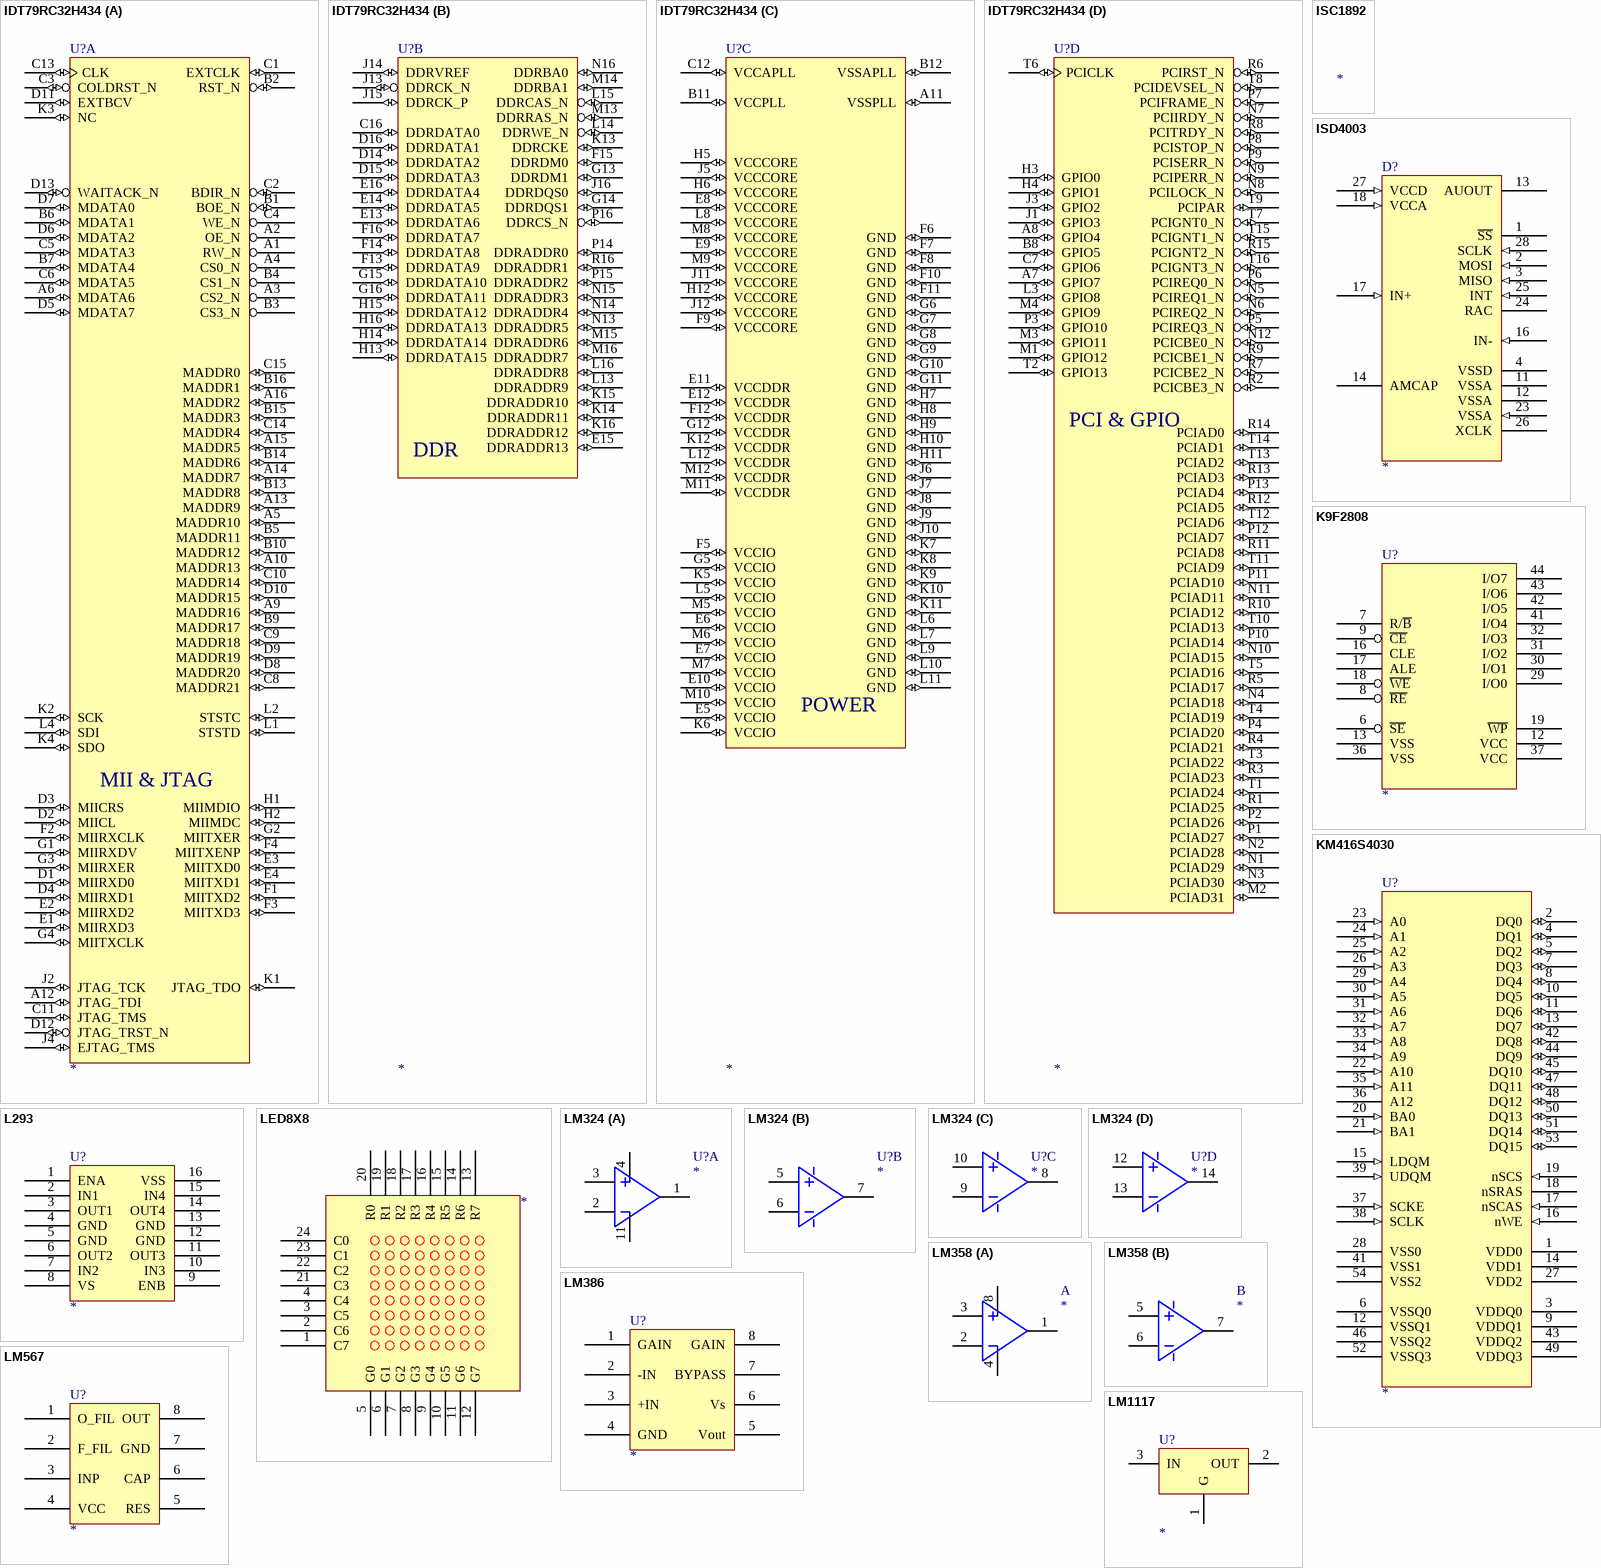
[diagram p6: symbols IDT79RC32H434 to LM1117]

## IDT79RC32H434
designator U?
79RC32434
footprint CABGA256
part A pins: A1 RW_N (oc), A2 OE_N (oc), A3 CS2_N (oc), A4 CS0_N (oc), A5 MADDR10 (io), A6 MDATA6 (io), A9 MADDR16 (io), A10 MADDR13 (io), A12 JTAG_TDI (io), A13 MADDR9 (io), A14 MADDR7 (io), A15 MADDR5 (io), A16 MADDR2 (io), B1 BOE_N (io), B2 RST_N (io), B3 CS3_N (oc), B4 CS1_N (oc), B5 MADDR11 (io), B6 MDATA1 (io), B7 MDATA4 (io), B9 MADDR17 (io), B10 MADDR12 (io), B13 MADDR8 (io), B14 MADDR6 (io), B15 MADDR3 (io), B16 MADDR1 (io), C1 EXTCLK (io), C2 BDIR_N (io), C3 COLDRST_N (io), C4 WE_N (oc), C5 MDATA3 (io), C6 MDATA5 (io), C8 MADDR21 (io), C9 MADDR18 (io), C10 MADDR14 (io), C11 JTAG_TMS (io), C13 CLK (io), C14 MADDR4 (io), C15 MADDR0 (io), D1 MIIRXD0 (io), D2 MIICL (io), D3 MIICRS (io), D4 MIIRXD1 (io), D5 MDATA7 (io), D6 MDATA2 (io), D7 MDATA0 (io), D8 MADDR20 (io), D9 MADDR19 (io), D10 MADDR15 (io), D11 EXTBCV (io), D12 JTAG_TRST_N (io), D13 WAITACK_N (io), E1 MIIRXD3 (io), E2 MIIRXD2 (io), E3 MIITXD0 (io), E4 MIITXD1 (io), F1 MIITXD2 (io), F2 MIIRXCLK (io), F3 MIITXD3 (io), F4 MIITXENP (io), G1 MIIRXDV (io), G2 MIITXER (io), G3 MIIRXER (io), G4 MIITXCLK (io), H1 MIIMDIO (io), H2 MIIMDC (io), J2 JTAG_TCK (io), J4 EJTAG_TMS (io), K1 JTAG_TDO (io), K2 SCK (io), K3 NC (io), K4 SDO (io), L1 STSTD (io), L2 STSTC (io), L4 SDI (io)
part B pins: C16 DDRDATA0 (io), D14 DDRDATA2 (io), D15 DDRDATA3 (io), D16 DDRDATA1 (io), E13 DDRDATA6 (io), E14 DDRDATA5 (io), E15 DDRADDR13 (io), E16 DDRDATA4 (io), F13 DDRDATA9 (io), F14 DDRDATA8 (io), F15 DDRDM0 (io), F16 DDRDATA7 (io), G13 DDRDM1 (io), G14 DDRDQS1 (io), G15 DDRDATA10 (io), G16 DDRDATA11 (io), H13 DDRDATA15 (io), H14 DDRDATA14 (io), H15 DDRDATA12 (io), H16 DDRDATA13 (io), J13 DDRCK_N (io), J14 DDRVREF (io), J15 DDRCK_P (io), J16 DDRDQS0 (io), K13 DDRCKE (io), K14 DDRADDR11 (io), K15 DDRADDR10 (io), K16 DDRADDR12 (io), L13 DDRADDR9 (io), L14 DDRWE_N (io), L15 DDRCAS_N (io), L16 DDRADDR8 (io), M13 DDRRAS_N (io), M14 DDRBA1 (io), M15 DDRADDR6 (io), M16 DDRADDR7 (io), N13 DDRADDR5 (io), N14 DDRADDR4 (io), N15 DDRADDR3 (io), N16 DDRBA0 (io), P14 DDRADDR0 (io), P15 DDRADDR2 (io), P16 DDRCS_N (io), R16 DDRADDR1 (io)
part C pins: A11 VSSPLL (io), B11 VCCPLL (io), B12 VSSAPLL (io), C12 VCCAPLL (io), E5 VCCIO (io), E6 VCCIO (io), E7 VCCIO (io), E8 VCCCORE (io), E9 VCCCORE (io), E10 VCCIO (io), E11 VCCDDR (io), E12 VCCDDR (io), F5 VCCIO (io), F6 GND (io), F7 GND (io), F8 GND (io), F9 VCCCORE (io), F10 GND (io), F11 GND (io), F12 VCCDDR (io), G5 VCCIO (io), G6 GND (io), G7 GND (io), G8 GND (io), G9 GND (io), G10 GND (io), G11 GND (io), G12 VCCDDR (io), H5 VCCCORE (io), H6 VCCCORE (io), H7 GND (io), H8 GND (io), H9 GND (io), H10 GND (io), H11 GND (io), H12 VCCCORE (io), J5 VCCCORE (io), J6 GND (io), J7 GND (io), J8 GND (io), J9 GND (io), J10 GND (io), J11 VCCCORE (io), J12 VCCCORE (io), K5 VCCIO (io), K6 VCCIO (io), K7 GND (io), K8 GND (io), K9 GND (io), K10 GND (io), K11 GND (io), K12 VCCDDR (io), L5 VCCIO (io), L6 GND (io), L7 GND (io), L8 VCCCORE (io), L9 GND (io), L10 GND (io), L11 GND (io), L12 VCCDDR (io), M5 VCCIO (io), M6 VCCIO (io), M7 VCCIO (io), M8 VCCCORE (io), M9 VCCCORE (io), M10 VCCIO (io), M11 VCCDDR (io), M12 VCCDDR (io)
part D pins: A7 GPIO7 (io), A8 GPIO4 (io), B8 GPIO5 (io), C7 GPIO6 (io), H3 GPIO0 (io), H4 GPIO1 (io), J1 GPIO3 (io), J3 GPIO2 (io), L3 GPIO8 (io), M1 GPIO12 (io), M2 PCIAD31 (io), M3 GPIO11 (io), M4 GPIO9 (io), N1 PCIAD29 (io), N2 PCIAD28 (io), N3 PCIAD30 (io), N4 PCIAD18 (io), N5 PCIREQ1_N (io), N6 PCIREQ2_N (io), N7 PCIIRDY_N (io), N8 PCILOCK_N (io), N9 PCIPERR_N (io), N10 PCIAD15 (io), N11 PCIAD11 (io), N12 PCICBE0_N (io), P1 PCIAD27 (io), P2 PCIAD26 (io), P3 GPIO10 (io), P4 PCIAD20 (io), P5 PCIREQ3_N (io), P6 PCIREQ0_N (io), P7 PCIFRAME_N (io), P8 PCISTOP_N (io), P9 PCISERR_N (io), P10 PCIAD14 (io), P11 PCIAD10 (io), P12 PCIAD7 (io), P13 PCIAD4 (io), R1 PCIAD25 (io), R2 PCICBE3_N (io), R3 PCIAD23 (io), R4 PCIAD21 (io), R5 PCIAD17 (io), R6 PCIRST_N (io), R7 PCICBE2_N (io), R8 PCITRDY_N (io), R9 PCICBE1_N (io), R10 PCIAD12 (io), R11 PCIAD8 (io), R12 PCIAD5 (io), R13 PCIAD3 (io), R14 PCIAD0 (io), R15 PCIGNT2_N (io), T1 PCIAD24 (io), T2 GPIO13 (io), T3 PCIAD22 (io), T4 PCIAD19 (io), T5 PCIAD16 (io), T6 PCICLK (io), T7 PCIGNT0_N (io), T8 PCIDEVSEL_N (io), T9 PCIPAR (io), T10 PCIAD13 (io), T11 PCIAD9 (io), T12 PCIAD6 (io), T13 PCIAD2 (io), T14 PCIAD1 (io), T15 PCIGNT1_N (io), T16 PCIGNT3_N (io)
part A text: MII & JTAG
part B text: DDR
part C text: POWER
part D text: PCI & GPIO

## ISC1892
designator ?

## ISD4003
designator D?
Text Field1: 80; Text Field2: 190
pins: 1 ~{SS}, 2 MOSI (in), 3 MISO (in), 4 VSSD, 11 VSSA, 12 VSSA (hiz), 13 AUOUT (hiz), 14 AMCAP (hiz), 16 IN- (in), 17 IN+ (in), 18 VCCA (in), 23 VSSA (in), 24 RAC, 25 INT (in), 26 XCLK, 27 VCCD (in), 28 SCLK (in)

## K9F2808
designator U?
footprint TSOP48
pins: 6 ~{SE}, 7 R/~{B}, 8 ~{RE}, 9 ~{CE}, 12 VCC (power), 13 VSS, 16 CLE, 17 ALE, 18 ~{WE}, 19 ~{WP}, 29 I/O0, 30 I/O1, 31 I/O2, 32 I/O3, 36 VSS, 37 VCC (power), 41 I/O4, 42 I/O5, 43 I/O6, 44 I/O7

## KM416S4030
designator U?
Text Field1: 100; Text Field2: 330
pins: 1 VDD0 (power), 2 DQ0 (io), 3 VDDQ0 (power), 4 DQ1 (io), 5 DQ2 (io), 6 VSSQ0 (power), 7 DQ3 (io), 8 DQ4 (io), 9 VDDQ1 (power), 10 DQ5 (io), 11 DQ6 (io), 12 VSSQ1 (power), 13 DQ7 (io), 14 VDD1 (power), 15 LDQM (in), 16 nWE (in), 17 nSCAS (in), 18 nSRAS, 19 nSCS (in), 20 BA0 (in), 21 BA1 (in), 22 A10 (in), 23 A0 (in), 24 A1 (in), 25 A2 (in), 26 A3 (in), 27 VDD2 (power), 28 VSS0 (power), 29 A4 (in), 30 A5 (in), 31 A6 (in), 32 A7 (in), 33 A8 (in), 34 A9 (in), 35 A11 (in), 36 A12, 37 SCKE (in), 38 SCLK (in), 39 UDQM (in), 41 VSS1 (power), 42 DQ8 (io), 43 VDDQ2 (power), 44 DQ9 (io), 45 DQ10 (io), 46 VSSQ2 (power), 47 DQ11 (io), 48 DQ12 (io), 49 VDDQ3 (power), 50 DQ13 (io), 51 DQ14 (io), 52 VSSQ3 (power), 53 DQ15 (io), 54 VSS2 (power)

## L293
designator U?
footprint DIP16
footprint DIP20
pins: 1 ENA, 2 IN1, 3 OUT1, 4 GND, 5 GND, 6 OUT2, 7 IN2, 8 VS, 9 ENB, 10 IN3, 11 OUT3, 12 GND, 13 GND, 14 OUT4, 15 IN4, 16 VSS

## LED8X8
designator ?
pins: 1 C7, 2 C6, 3 C5, 4 C4, 5 G0, 6 G1, 7 G2, 8 G3, 9 G4, 10 G5, 11 G6, 12 G7, 13 R7, 14 R6, 15 R5, 16 R4, 17 R3, 18 R2, 19 R1, 20 R0, 21 C3, 22 C2, 23 C1, 24 C0

## LM324
designator U?
footprint SO14
footprint DIP14
part A pins: 1 O, 2 -, 3 +, 4 V+, 11 GND
part B pins: 5 +, 6 -, 7 O
part C pins: 8 O, 9 -, 10 +
part D pins: 12 +, 13 -, 14 O

## LM358
designator ?
footprint DIP8
part A pins: 1, 2, 3, 4 GND, 8 V+
part B pins: 5, 6, 7

## LM386
designator U?
Text Field1: 70; Text Field2: 80
pins: 1 GAIN, 2 -IN, 3 +IN, 4 GND, 5 Vout, 6 Vs, 7 BYPASS, 8 GAIN

## LM567
designator U?
footprint DIP8
footprint SO-8
pins: 1 O_FIL, 2 F_FIL, 3 INP, 4 VCC, 5 RES, 6 CAP, 7 GND, 8 OUT

## LM1117
designator U?
LINER REG
footprint SOT223
footprint SOT253
pins: 1 G, 2 OUT, 3 IN

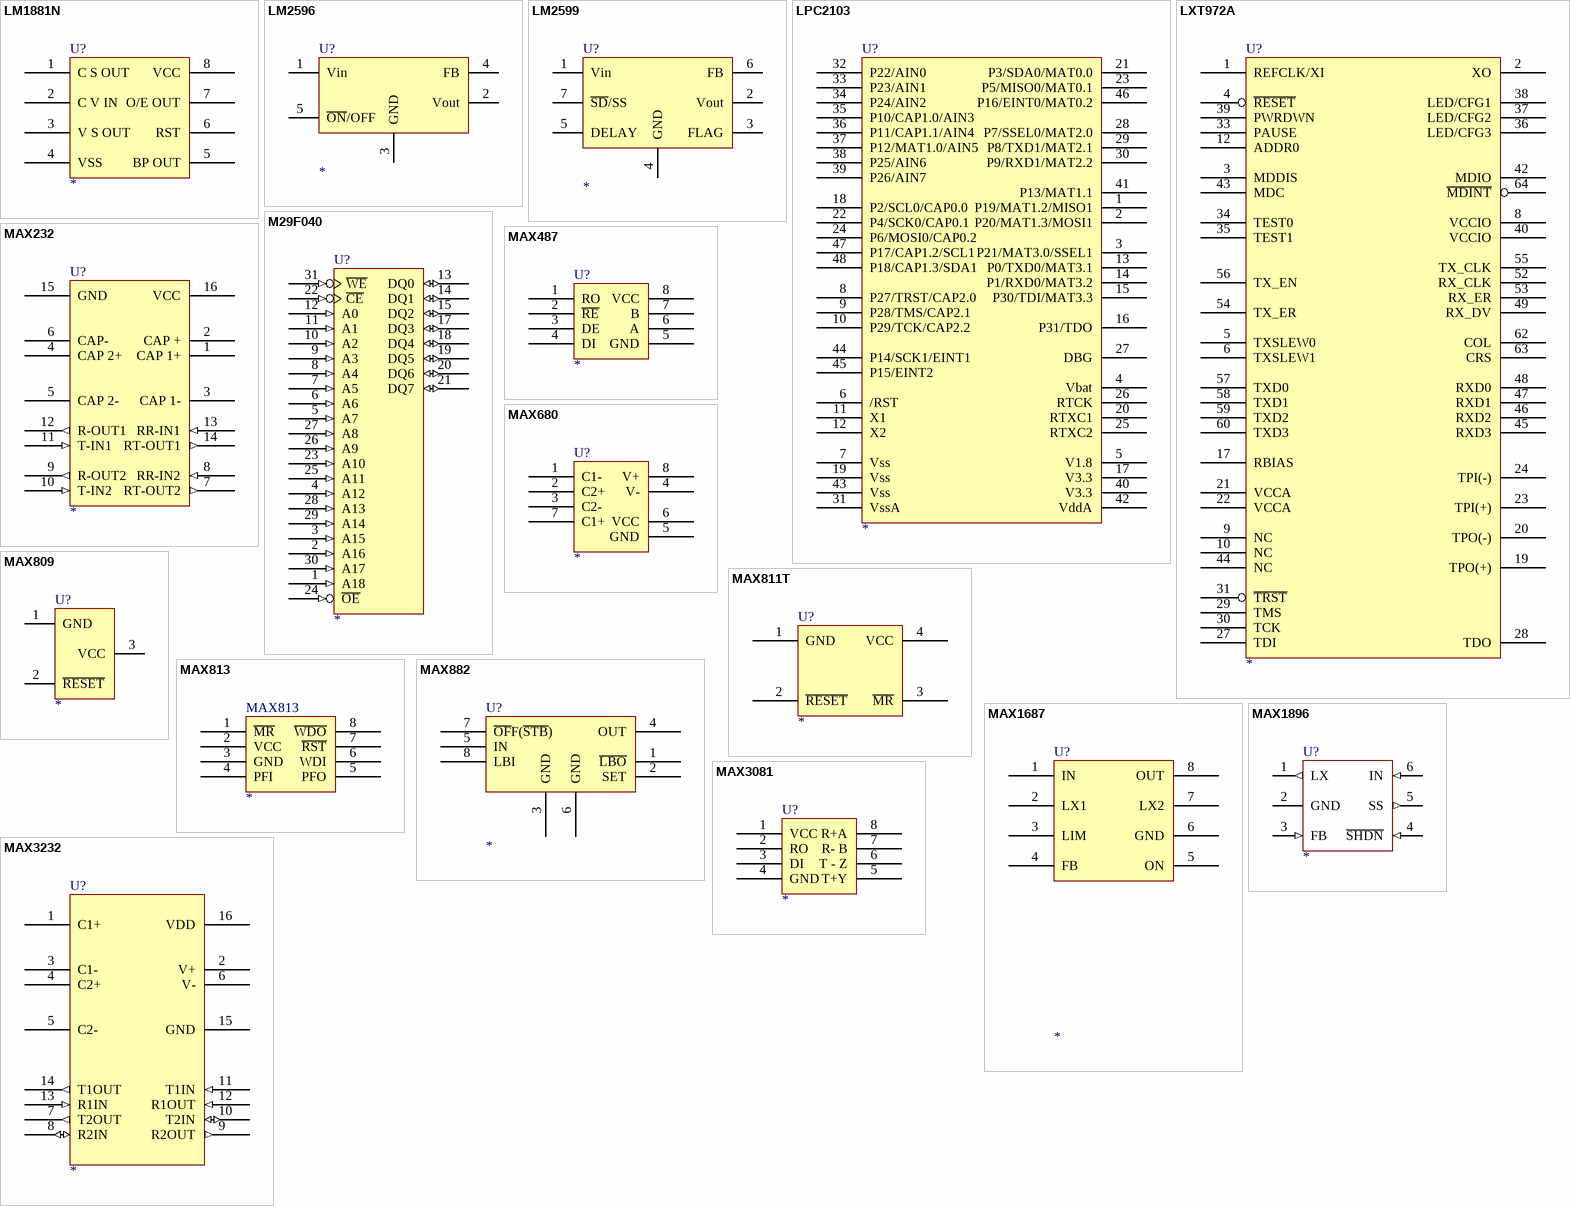
[diagram p7: symbols LM1881N to MAX3232]

## LM1881N
designator U?
Video Sync Separator
footprint SO8
footprint DIP8
pins: 1 C S OUT, 2 C V IN, 3 V S OUT, 4 VSS, 5 BP OUT, 6 RST, 7 O/E OUT, 8 VCC

## LM2596
designator U?
SIMPLESWITCHER PowerConverter150kHz 3A Step-DownVoltageRegulator
footprint TO-263
footprint TO-220
pins: 1 Vin, 2 Vout, 3 GND, 4 FB, 5 ~{ON}/OFF

## LM2599
designator U?
SIMPLESWITCHER PowerConverter150kHz 3A Step-DownVoltageRegulator
footprint TO-263-7
footprint TO-220-7
pins: 1 Vin, 2 Vout, 3 FLAG, 4 GND, 5 DELAY, 6 FB, 7 ~{SD}/SS

## LPC2103
designator U?
footprint LQFP48
pins: 1 P19/MAT1.2/MISO1, 2 P20/MAT1.3/MOSI1, 3 P21/MAT3.0/SSEL1, 4 Vbat, 5 V1.8, 6 /RST, 7 Vss, 8 P27/TRST/CAP2.0, 9 P28/TMS/CAP2.1, 10 P29/TCK/CAP2.2, 11 X1, 12 X2, 13 P0/TXD0/MAT3.1, 14 P1/RXD0/MAT3.2, 15 P30/TDI/MAT3.3, 16 P31/TDO, 17 V3.3, 18 P2/SCL0/CAP0.0, 19 Vss, 20 RTXC1, 21 P3/SDA0/MAT0.0, 22 P4/SCK0/CAP0.1, 23 P5/MISO0/MAT0.1, 24 P6/MOSI0/CAP0.2, 25 RTXC2, 26 RTCK, 27 DBG, 28 P7/SSEL0/MAT2.0, 29 P8/TXD1/MAT2.1, 30 P9/RXD1/MAT2.2, 31 VssA, 32 P22/AIN0, 33 P23/AIN1, 34 P24/AIN2, 35 P10/CAP1.0/AIN3, 36 P11/CAP1.1/AIN4, 37 P12/MAT1.0/AIN5, 38 P25/AIN6, 39 P26/AIN7, 40 V3.3, 41 P13/MAT1.1, 42 VddA, 43 Vss, 44 P14/SCK1/EINT1, 45 P15/EINT2, 46 P16/EINT0/MAT0.2, 47 P17/CAP1.2/SCL1, 48 P18/CAP1.3/SDA1

## LXT972A
designator U?
3.3V Dual-Speed Fast Ethernet Transceiver Datasheet
footprint LQFP64
pins: 1 REFCLK/XI, 2 XO, 3 MDDIS, 4 ~{RESET}, 5 TXSLEW0, 6 TXSLEW1, 7 GND hidden to GND, 8 VCCIO, 9 NC, 10 NC, 11 GND hidden to GND, 12 ADDR0, 13 GND hidden to GND, 14 GND hidden to GND, 15 GND hidden to GND, 16 GND hidden to GND, 17 RBIAS, 18 GND hidden to GND, 19 TPO(+), 20 TPO(-), 21 VCCA, 22 VCCA, 23 TPI(+), 24 TPI(-), 25 GND hidden to GND, 26 GND hidden to GND, 27 TDI, 28 TDO, 29 TMS, 30 TCK, 31 ~{TRST}, 32 GND hidden to GND, 33 PAUSE, 34 TEST0, 34 GND hidden to GND, 35 TEST1, 35 GND hidden to GND, 36 LED/CFG3, 37 LED/CFG2, 38 LED/CFG1, 39 PWRDWN, 40 VCCIO, 42 MDIO, 43 MDC, 44 NC, 45 RXD3, 46 RXD2, 47 RXD1, 48 RXD0, 49 RX_DV, 52 RX_CLK, 53 RX_ER, 54 TX_ER, 55 TX_CLK, 56 TX_EN, 57 TXD0, 58 TXD1, 59 TXD2, 60 TXD3, 62 COL, 63 CRS, 64 ~{MDINT}

## M29F040
designator U?
Single Supply 4 Megabit (512K X 8, Sector Erase) Flash Memory
footprint PLCC/R-32
pins: 1 A18 (in), 2 A16 (in), 3 A15 (in), 4 A12 (in), 5 A7 (in), 6 A6 (in), 7 A5 (in), 8 A4 (in), 9 A3 (in), 10 A2 (in), 11 A1 (in), 12 A0 (in), 13 DQ0 (io), 14 DQ1 (io), 15 DQ2 (io), 16 GND (power) hidden to GND, 17 DQ3 (io), 18 DQ4 (io), 19 DQ5 (io), 20 DQ6 (io), 21 DQ7 (io), 22 ~{CE} (in), 23 A10 (in), 24 ~{OE} (in), 25 A11 (in), 26 A9 (in), 27 A8 (in), 28 A13 (in), 29 A14 (in), 30 A17 (in), 31 ~{WE} (in), 32 VCC (power) hidden to VCC

## MAX232
designator U?
footprint SO-16
footprint DIP16
pins: 1 CAP 1+, 2 CAP +, 3 CAP 1-, 4 CAP 2+, 5 CAP 2-, 6 CAP-, 7 RT-OUT2 (out), 8 RR-IN2 (in), 9 R-OUT2 (out), 10 T-IN2 (in), 11 T-IN1 (in), 12 R-OUT1 (out), 13 RR-IN1 (in), 14 RT-OUT1 (out), 15 GND (power), 16 VCC (power)

## MAX487
designator U?
footprint DIP8
pins: 1 RO, 2 ~{RE}, 3 DE, 4 DI, 5 GND, 6 A, 7 B, 8 VCC

## MAX680
designator U?
+5V TO +/- 10V VOLTAGE CONVERTERS
footprint DIP-8
footprint SO8
footprint DIP-8
footprint DIP-8
pins: 1 C1-, 2 C2+, 3 C2-, 4 V- (power), 5 GND (power), 6 VCC (power), 7 C1+, 8 V+ (power)

## MAX809
designator U?
Text Field1: 70; Text Field2: 60
footprint SOT23
pins: 1 GND, 2 ~{RESET}, 3 VCC

## MAX811T
designator U?
Text Field1: 70; Text Field2: 60
pins: 1 GND, 2 ~{RESET}, 3 ~{MR}, 4 VCC

## MAX813
designator MAX813
pins: 1 ~{MR}, 2 VCC, 3 GND, 4 PFI, 5 PFO, 6 WDI, 7 ~{RST}, 8 ~{WDO}

## MAX882
designator U?
footprint SO8
pins: 1 ~{LBO}, 2 SET, 3 GND, 4 OUT, 5 IN, 6 GND, 7 ~{OF}F(~{STB}), 8 LBI

## MAX1687
designator U?
Text Field1: 90; Text Field2: 190
footprint SO8
pins: 1 IN, 2 LX1, 3 LIM, 4 FB, 5 ON (power), 6 GND, 7 LX2, 8 OUT (power)

## MAX1896
designator U?
1.4MHz SOT23 Current-Mode Step-Up DC-DC Converter
footprint SOT-23/6
pins: 1 LX (out), 2 GND (power), 3 FB (in), 4 ~{SHDN} (in), 5 SS (out), 6 IN (in)

## MAX3081
designator U?
footprint DIP8
pins: 1 VCC, 2 RO, 3 DI, 4 GND, 5 T+Y, 6 T - Z, 7 R- B, 8 R+A

## MAX3232
designator U?
Text Field1: 90; Text Field2: 190
footprint SO16
footprint DIP16
pins: 1 C1+, 2 V+, 3 C1-, 4 C2+, 5 C2-, 6 V-, 7 T2OUT (out), 8 R2IN (io), 9 R2OUT (out), 10 T2IN (io), 11 T1IN (in), 12 R1OUT (in), 13 R1IN (in), 14 T1OUT (out), 15 GND (power), 16 VDD (power)

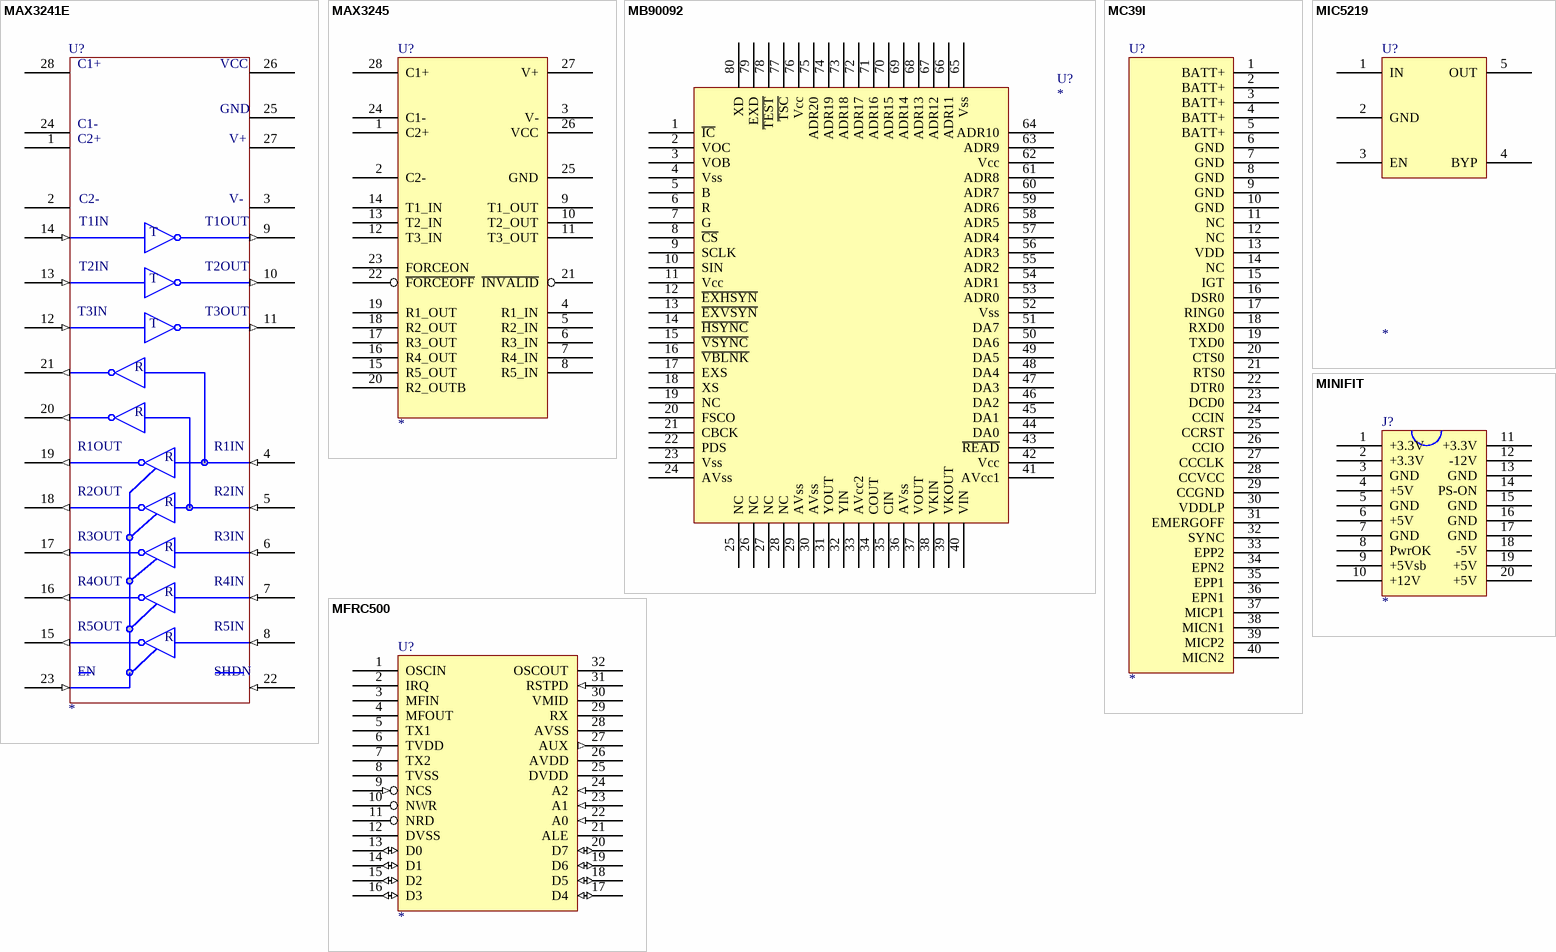
[diagram p8: symbols MAX3241E to MINIFIT]

## MAX3241E
designator U?
Text Field1: 122; Text Field2: 430
footprint SO28
pins: 1, 2, 3, 4 (in), 5 (in), 6 (in), 7 (in), 8 (in), 9 (out), 10 (out), 11 (out), 12 (in), 13 (in), 14 (in), 15 (out), 16 (out), 17 (out), 18 (out), 19 (out), 20 (out), 21 (out), 22 (in), 23 (in), 24, 25 GND (power), 26 VCC (power), 27, 28
text: C1+; C1-; C2+; V+; C2-; V-; T1IN; T1OUT; T; T2IN; T2OUT; T3IN; T3OUT; R; R1OUT; R1IN; R2OUT; R2IN; R3OUT; R3IN; R4OUT; R4IN; R5OUT; R5IN; EN; SHDN

## MAX3245
designator U?
1μA Supply Current, 1Mbps, 3.0V to 5.5V, RS-232 Transceivers with AutoShutdown Plus
footprint TSSOP20
pins: 1 C2+, 2 C2-, 3 V-, 4 R1_IN, 5 R2_IN, 6 R3_IN, 7 R4_IN, 8 R5_IN, 9 T1_OUT, 10 T2_OUT, 11 T3_OUT, 12 T3_IN, 13 T2_IN, 14 T1_IN, 15 R5_OUT, 16 R4_OUT, 17 R3_OUT, 18 R2_OUT, 19 R1_OUT, 20 R2_OUTB, 21 ~{INVALID}, 22 ~{FORCEOFF}, 23 FORCEON, 24 C1-, 25 GND, 26 VCC, 27 V+, 28 C1+

## MB90092
designator U?
ON-SCREEN DISPLAY CONTROLLER
footprint QFP80
pins: 1 ~{IC}, 2 VOC, 3 VOB, 4 Vss, 5 B, 6 R, 7 G, 8 ~{CS}, 9 SCLK, 10 SIN, 11 Vcc, 12 ~{EXHSYN}, 13 ~{EXVSYN}, 14 ~{HSYNC}, 15 ~{VSYNC}, 16 ~{VBLNK}, 17 EXS, 18 XS, 19 NC, 20 FSCO, 21 CBCK, 22 PDS, 23 Vss, 24 AVss, 25 NC, 26 NC, 27 NC, 28 NC, 29 AVss, 30 AVss, 31 YOUT, 32 YIN, 33 AVcc2, 34 COUT, 35 CIN, 36 AVss, 37 VOUT, 38 VKIN, 39 VKOUT, 40 VIN, 41 AVcc1, 42 Vcc, 43 ~{READ}, 44 DA0, 45 DA1, 46 DA2, 47 DA3, 48 DA4, 49 DA5, 50 DA6, 51 DA7, 52 Vss, 53 ADR0, 54 ADR1, 55 ADR2, 56 ADR3, 57 ADR4, 58 ADR5, 59 ADR6, 60 ADR7, 61 ADR8, 62 Vcc, 63 ADR9, 64 ADR10, 65 Vss, 66 ADR11, 67 ADR12, 68 ADR13, 69 ADR14, 70 ADR15, 71 ADR16, 72 ADR17, 73 ADR18, 74 ADR19, 75 ADR20, 76 Vcc, 77 ~{TSC}, 78 ~{TEST}, 79 EXD, 80 XD

## MC39I
designator U?
footprint MC39I
pins: 1 BATT+, 2 BATT+, 3 BATT+, 4 BATT+, 5 BATT+, 6 GND, 7 GND, 8 GND, 9 GND, 10 GND, 11 NC, 12 NC, 13 VDD, 14 NC, 15 IGT, 16 DSR0, 17 RING0, 18 RXD0, 19 TXD0, 20 CTS0, 21 RTS0, 22 DTR0, 23 DCD0, 24 CCIN, 25 CCRST, 26 CCIO, 27 CCCLK, 28 CCVCC, 29 CCGND, 30 VDDLP, 31 EMERGOFF, 32 SYNC, 33 EPP2, 34 EPN2, 35 EPP1, 36 EPN1, 37 MICP1, 38 MICN1, 39 MICP2, 40 MICN2

## MFRC500
designator U?
pins: 1 OSCIN, 2 IRQ, 3 MFIN, 4 MFOUT, 5 TX1, 6 TVDD (power), 7 TX2, 8 TVSS (power), 9 NCS (in), 10 NWR, 11 NRD, 12 DVSS (power), 13 D0 (io), 14 D1 (io), 15 D2 (io), 16 D3 (io), 17 D4 (io), 18 D5 (io), 19 D6 (io), 20 D7 (io), 21 ALE, 22 A0 (in), 23 A1 (in), 24 A2 (in), 25 DVDD (power), 26 AVDD (power), 27 AUX (out), 28 AVSS (power), 29 RX, 30 VMID, 31 RSTPD (in), 32 OSCOUT

## MIC5219
designator U?
Text Field1: 90; Text Field2: 190
footprint SOT-23-5
pins: 1 IN, 2 GND, 3 EN, 4 BYP, 5 OUT (power)

## MINIFIT
designator J?
footprint MINIFIT20
pins: 1 +3.3V, 2 +3.3V, 3 GND, 4 +5V, 5 GND, 6 +5V, 7 GND, 8 PwrOK, 9 +5Vsb, 10 +12V, 11 +3.3V, 12 -12V, 13 GND, 14 PS-ON, 15 GND, 16 GND, 17 GND, 18 -5V, 19 +5V, 20 +5V

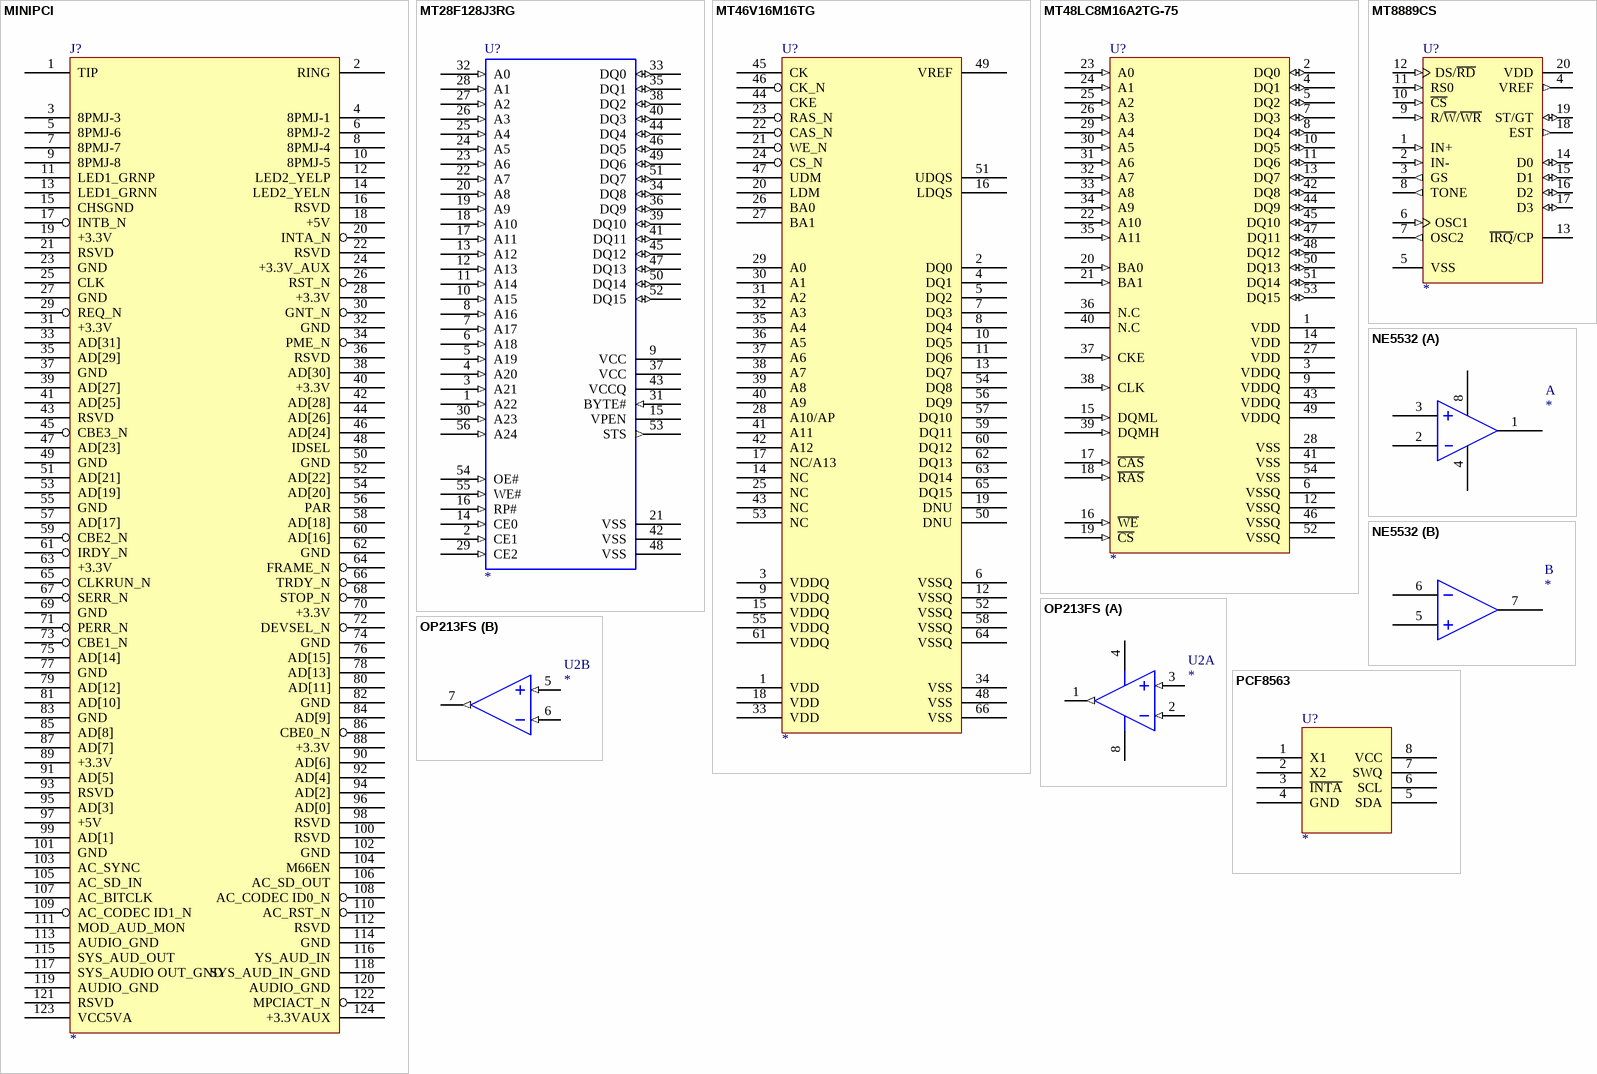
[diagram p9: symbols MINIPCI to PCF8563]

## MINIPCI
designator J?
MINIPCI
pins: 1 TIP, 2 RING, 3 8PMJ-3, 4 8PMJ-1, 5 8PMJ-6, 6 8PMJ-2, 7 8PMJ-7, 8 8PMJ-4, 9 8PMJ-8, 10 8PMJ-5, 11 LED1_GRNP, 12 LED2_YELP, 13 LED1_GRNN, 14 LED2_YELN, 15 CHSGND, 16 RSVD, 17 INTB_N, 18 +5V, 19 +3.3V, 20 INTA_N, 21 RSVD, 22 RSVD, 23 GND, 24 +3.3V_AUX, 25 CLK, 26 RST_N, 27 GND, 28 +3.3V, 29 REQ_N, 30 GNT_N, 31 +3.3V, 32 GND, 33 AD[31], 34 PME_N, 35 AD[29], 36 RSVD, 37 GND, 38 AD[30], 39 AD[27], 40 +3.3V, 41 AD[25], 42 AD[28], 43 RSVD, 44 AD[26], 45 CBE3_N, 46 AD[24], 47 AD[23], 48 IDSEL, 49 GND, 50 GND, 51 AD[21], 52 AD[22], 53 AD[19], 54 AD[20], 55 GND, 56 PAR, 57 AD[17], 58 AD[18], 59 CBE2_N, 60 AD[16], 61 IRDY_N, 62 GND, 63 +3.3V, 64 FRAME_N, 65 CLKRUN_N, 66 TRDY_N, 67 SERR_N, 68 STOP_N, 69 GND, 70 +3.3V, 71 PERR_N, 72 DEVSEL_N, 73 CBE1_N, 74 GND, 75 AD[14], 76 AD[15], 77 GND, 78 AD[13], 79 AD[12], 80 AD[11], 81 AD[10], 82 GND, 83 GND, 84 AD[9], 85 AD[8], 86 CBE0_N, 87 AD[7], 88 +3.3V, 89 +3.3V, 90 AD[6], 91 AD[5], 92 AD[4], 93 RSVD, 94 AD[2], 95 AD[3], 96 AD[0], 97 +5V, 98 RSVD, 99 AD[1], 100 RSVD, 101 GND, 102 GND, 103 AC_SYNC, 104 M66EN, 105 AC_SD_IN, 106 AC_SD_OUT, 107 AC_BITCLK, 108 AC_CODEC ID0_N, 109 AC_CODEC ID1_N, 110 AC_RST_N, 111 MOD_AUD_MON, 112 RSVD, 113 AUDIO_GND, 114 GND, 115 SYS_AUD_OUT, 116 YS_AUD_IN, 117 SYS_AUDIO OUT_GND, 118 SYS_AUD_IN_GND, 119 AUDIO_GND, 120 AUDIO_GND, 121 RSVD, 122 MPCIACT_N, 123 VCC5VA, 124 +3.3VAUX

## MT28F128J3RG
designator U?
Text Field1: 102; Text Field2: 342
footprint TSOP56
pins: 1 A22 (in), 2 CE1 (in), 3 A21 (in), 4 A20 (in), 5 A19 (in), 6 A18 (in), 7 A17 (in), 8 A16 (in), 9 VCC (power), 10 A15 (in), 11 A14 (in), 12 A13 (in), 13 A12 (in), 14 CE0 (in), 15 VPEN (power), 16 RP# (in), 17 A11 (in), 18 A10 (in), 19 A9 (in), 20 A8 (in), 21 VSS (power), 22 A7 (in), 23 A6 (in), 24 A5 (in), 25 A4 (in), 26 A3 (in), 27 A2 (in), 28 A1 (in), 29 CE2 (in), 30 A23 (in), 31 BYTE# (in), 32 A0 (in), 33 DQ0 (io), 34 DQ8 (io), 35 DQ1 (io), 36 DQ9 (io), 37 VCC (power), 38 DQ2 (io), 39 DQ10 (io), 40 DQ3 (io), 41 DQ11 (io), 42 VSS (power), 43 VCCQ (power), 44 DQ4 (io), 45 DQ12 (io), 46 DQ5 (io), 47 DQ13 (io), 48 VSS (power), 49 DQ6 (io), 50 DQ14 (io), 51 DQ7 (io), 52 DQ15 (io), 53 STS (out), 54 OE# (in), 55 WE# (in), 56 A24 (in)

## MT46V16M16TG
designator U?
256Mb: x4, x8, x16 DDR SDRAM
footprint TSOP66
pins: 1 VDD, 2 DQ0, 3 VDDQ, 4 DQ1, 5 DQ2, 6 VSSQ, 7 DQ3, 8 DQ4, 9 VDDQ, 10 DQ5, 11 DQ6, 12 VSSQ, 13 DQ7, 14 NC, 15 VDDQ, 16 LDQS, 17 NC/A13, 18 VDD, 19 DNU, 20 LDM, 21 WE_N, 22 CAS_N, 23 RAS_N, 24 CS_N, 25 NC, 26 BA0, 27 BA1, 28 A10/AP, 29 A0, 30 A1, 31 A2, 32 A3, 33 VDD, 34 VSS, 35 A4, 36 A5, 37 A6, 38 A7, 39 A8, 40 A9, 41 A11, 42 A12, 43 NC, 44 CKE, 45 CK, 46 CK_N, 47 UDM, 48 VSS, 49 VREF, 50 DNU, 51 UDQS, 52 VSSQ, 53 NC, 54 DQ8, 55 VDDQ, 56 DQ9, 57 DQ10, 58 VSSQ, 59 DQ11, 60 DQ12, 61 VDDQ, 62 DQ13, 63 DQ14, 64 VSSQ, 65 DQ15, 66 VSS

## MT48LC8M16A2TG-75
designator U?
Text Field1: 120; Text Field2: 330
footprint TSOP54
pins: 1 VDD (power), 2 DQ0 (io), 3 VDDQ (power), 4 DQ1 (io), 5 DQ2 (io), 6 VSSQ (power), 7 DQ3 (io), 8 DQ4 (io), 9 VDDQ (power), 10 DQ5 (io), 11 DQ6 (io), 12 VSSQ (power), 13 DQ7 (io), 14 VDD (power), 15 DQML (in), 16 ~{WE} (in), 17 ~{CAS} (in), 18 ~{RAS} (in), 19 ~{CS} (in), 20 BA0 (in), 21 BA1 (in), 22 A10 (in), 23 A0 (in), 24 A1 (in), 25 A2 (in), 26 A3 (in), 27 VDD (power), 28 VSS (power), 29 A4 (in), 30 A5 (in), 31 A6 (in), 32 A7 (in), 33 A8 (in), 34 A9 (in), 35 A11 (in), 36 N.C, 37 CKE (in), 38 CLK (in), 39 DQMH (in), 40 N.C, 41 VSS (power), 42 DQ8 (io), 43 VDDQ (power), 44 DQ9 (io), 45 DQ10 (io), 46 VSSQ (power), 47 DQ11 (io), 48 DQ12 (io), 49 VDDQ (power), 50 DQ13 (io), 51 DQ14 (io), 52 VSSQ (power), 53 DQ15 (io), 54 VSS (power)
text: MT48LC8M16A2

## MT8889CS
designator U?
Text Field1: 80; Text Field2: 150
pins: 1 IN+ (in), 2 IN- (in), 3 GS (out), 4 VREF (out), 5 VSS (power), 6 OSC1 (in), 7 OSC2 (out), 8 TONE (out), 9 R/~{W}/~{WR} (in), 10 ~{CS} (in), 11 RS0 (in), 12 DS/~{RD} (in), 13 ~{IRQ}/CP (oc), 14 D0 (io), 15 D1 (io), 16 D2 (io), 17 D3 (io), 18 EST (out), 19 ST/GT (io), 20 VDD (power)

## NE5532
designator ?
part A pins: 1, 2, 3, 4, 8
part B pins: 5, 6, 7

## OP213FS
designator U2
Low-Noise, Low Drift Single-Supply Operational Amplifier; Published: *; Revised: *; Publisher: *; Manufacturer: *; Class: *; SubClass: *
footprint SO-G8
part A pins: 1 OUT (out), 2 IN- (in), 3 IN+ (in), 4 V- (power), 8 V+ (power)
part B pins: 5 IN+ (in), 6 IN- (in), 7 OUT (out)
2 alternate drawings of the same symbol

## PCF8563
designator U?
DS1337; U?: *
pins: 1 X1, 2 X2, 3 ~{INTA}, 4 GND, 5 SDA, 6 SCL, 7 SWQ, 8 VCC

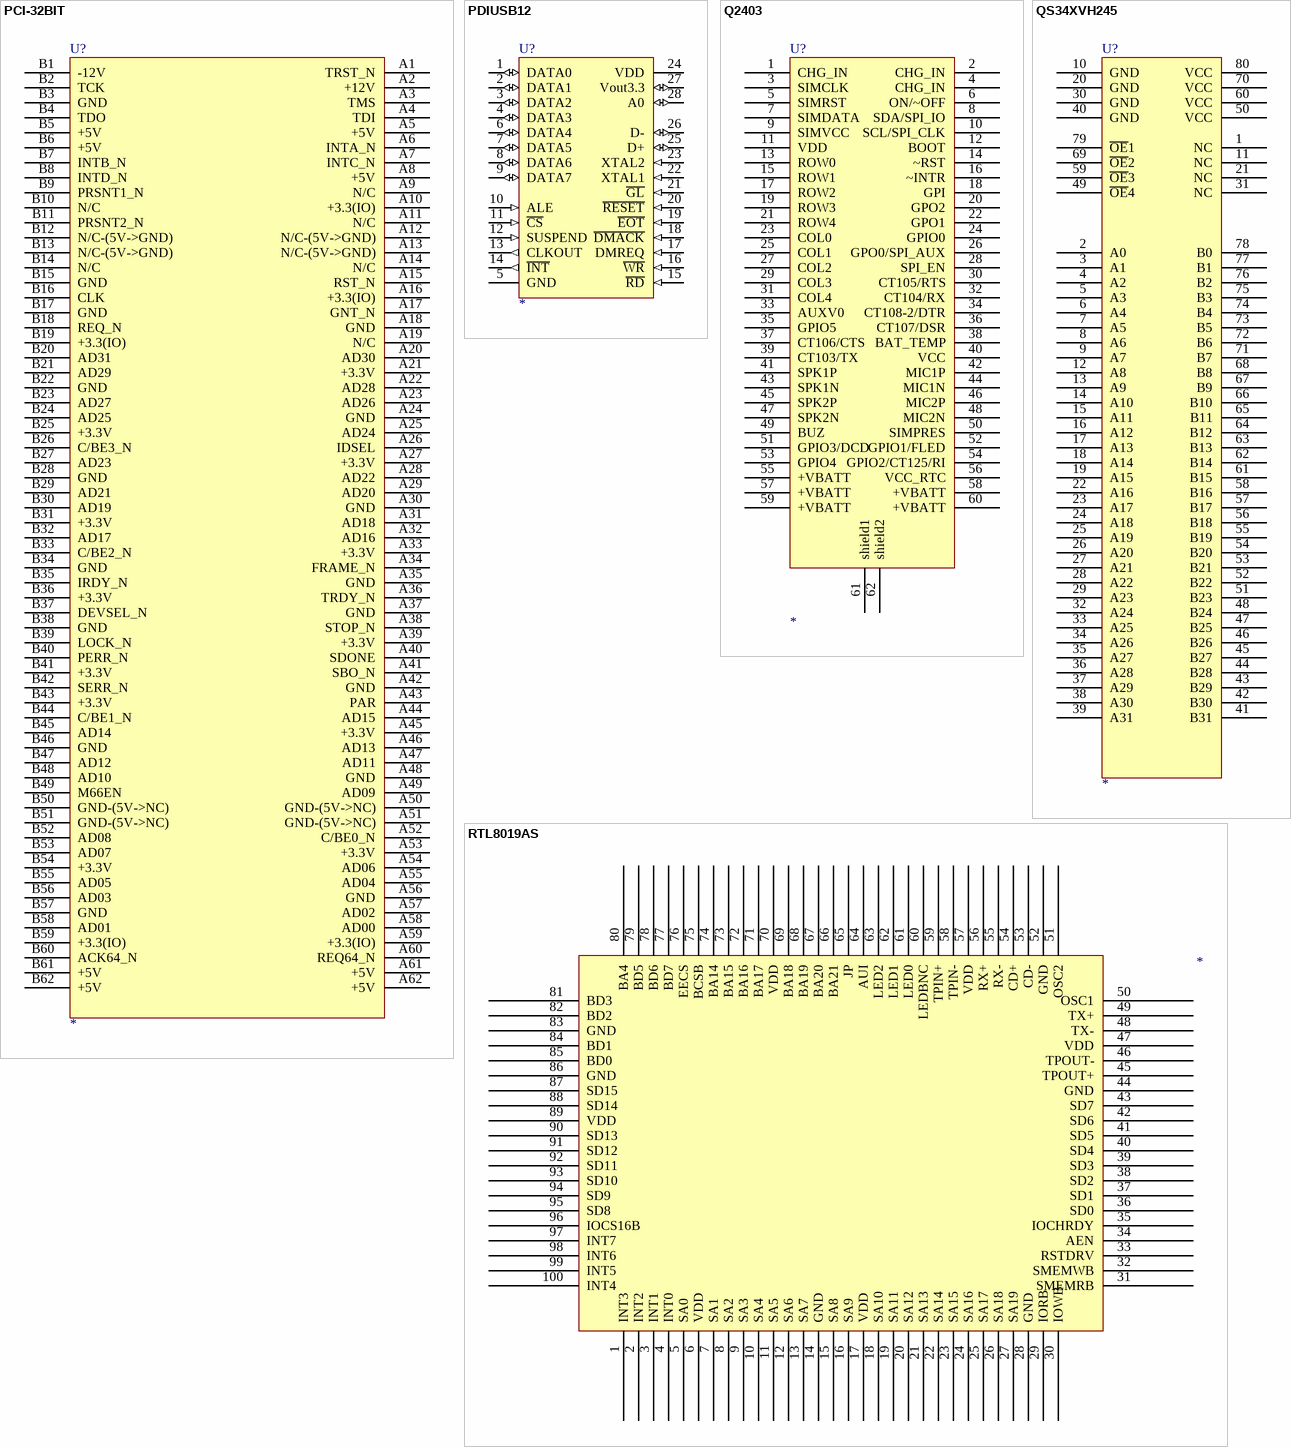
[diagram p10: symbols PCI-32BIT to RTL8019AS]

## PCI-32BIT
designator U?
PIC-32BIT
footprint PCI-32BIT-3.3V
footprint PCI-32BIT-5V
pins: A1 TRST_N, A2 +12V, A3 TMS, A4 TDI, A5 +5V, A6 INTA_N, A7 INTC_N, A8 +5V, A9 N/C, A10 +3.3(IO), A11 N/C, A12 N/C-(5V->GND), A13 N/C-(5V->GND), A14 N/C, A15 RST_N, A16 +3.3(IO), A17 GNT_N, A18 GND, A19 N/C, A20 AD30, A21 +3.3V, A22 AD28, A23 AD26, A24 GND, A25 AD24, A26 IDSEL, A27 +3.3V, A28 AD22, A29 AD20, A30 GND, A31 AD18, A32 AD16, A33 +3.3V, A34 FRAME_N, A35 GND, A36 TRDY_N, A37 GND, A38 STOP_N, A39 +3.3V, A40 SDONE, A41 SBO_N, A42 GND, A43 PAR, A44 AD15, A45 +3.3V, A46 AD13, A47 AD11, A48 GND, A49 AD09, A50 GND-(5V->NC), A51 GND-(5V->NC), A52 C/BE0_N, A53 +3.3V, A54 AD06, A55 AD04, A56 GND, A57 AD02, A58 AD00, A59 +3.3(IO), A60 REQ64_N, A61 +5V, A62 +5V, B1 -12V, B2 TCK, B3 GND, B4 TDO, B5 +5V, B6 +5V, B7 INTB_N, B8 INTD_N, B9 PRSNT1_N, B10 N/C, B11 PRSNT2_N, B12 N/C-(5V->GND), B13 N/C-(5V->GND), B14 N/C, B15 GND, B16 CLK, B17 GND, B18 REQ_N, B19 +3.3(IO), B20 AD31, B21 AD29, B22 GND, B23 AD27, B24 AD25, B25 +3.3V, B26 C/BE3_N, B27 AD23, B28 GND, B29 AD21, B30 AD19, B31 +3.3V, B32 AD17, B33 C/BE2_N, B34 GND, B35 IRDY_N, B36 +3.3V, B37 DEVSEL_N, B38 GND, B39 LOCK_N, B40 PERR_N, B41 +3.3V, B42 SERR_N, B43 +3.3V, B44 C/BE1_N, B45 AD14, B46 GND, B47 AD12, B48 AD10, B49 M66EN, B50 GND-(5V->NC), B51 GND-(5V->NC), B52 AD08, B53 AD07, B54 +3.3V, B55 AD05, B56 AD03, B57 GND, B58 AD01, B59 +3.3(IO), B60 ACK64_N, B61 +5V, B62 +5V

## PDIUSB12
designator U?
footprint SOL-28
pins: 1 DATA0 (io), 2 DATA1 (io), 3 DATA2 (io), 4 DATA3 (io), 5 GND (power), 6 DATA4 (io), 7 DATA5 (io), 8 DATA6 (io), 9 DATA7 (io), 10 ALE (in), 11 ~{CS} (in), 12 SUSPEND (in), 13 CLKOUT (out), 14 ~{INT} (out), 15 ~{RD} (in), 16 ~{WR} (in), 17 DMREQ (in), 18 ~{DMACK} (in), 19 ~{EOT} (in), 20 ~{RESET} (in), 21 ~{GL} (in), 22 XTAL1 (in), 23 XTAL2 (in), 24 VDD (power), 25 D+ (io), 26 D- (io), 27 Vout3.3 (io), 28 A0 (io)

## Q2403
designator U?
Text Field1: 110; Text Field2: 340
pins: 1 CHG_IN (power), 2 CHG_IN (power), 3 SIMCLK (power), 4 CHG_IN (power), 5 SIMRST (power), 6 ON/~OFF (power), 7 SIMDATA (power), 8 SDA/SPI_IO (power), 9 SIMVCC (power), 10 SCL/SPI_CLK (power), 11 VDD (power), 12 BOOT (power), 13 ROW0 (power), 14 ~RST (power), 15 ROW1 (power), 16 ~INTR (power), 17 ROW2 (power), 18 GPI (power), 19 ROW3 (power), 20 GPO2 (power), 21 ROW4 (power), 22 GPO1 (power), 23 COL0 (power), 24 GPIO0 (power), 25 COL1 (power), 26 GPO0/SPI_AUX (power), 27 COL2 (power), 28 SPI_EN (power), 29 COL3 (power), 30 CT105/RTS (power), 31 COL4 (power), 32 CT104/RX (power), 33 AUXV0 (power), 34 CT108-2/DTR (power), 35 GPIO5 (power), 36 CT107/DSR (power), 37 CT106/CTS (power), 38 BAT_TEMP (power), 39 CT103/TX (power), 40 VCC (power), 41 SPK1P (power), 42 MIC1P (power), 43 SPK1N (power), 44 MIC1N (power), 45 SPK2P (power), 46 MIC2P (power), 47 SPK2N (power), 48 MIC2N (power), 49 BUZ (power), 50 SIMPRES (power), 51 GPIO3/DCD (power), 52 GPIO1/FLED (power), 53 GPIO4 (power), 54 GPIO2/CT125/RI (power), 55 +VBATT (power), 56 VCC_RTC (power), 57 +VBATT (power), 58 +VBATT (power), 59 +VBATT (power), 60 +VBATT (power), 61 shield1 (power), 62 shield2 (power)

## QS34XVH245
designator U?
2.5V / 3.3V 32-BIT HIGH BANDWIDTH BUS SWITCH
footprint QVSOP80
pins: 1 NC, 2 A0, 3 A1, 4 A2, 5 A3, 6 A4, 7 A5, 8 A6, 9 A7, 10 GND, 11 NC, 12 A8, 13 A9, 14 A10, 15 A11, 16 A12, 17 A13, 18 A14, 19 A15, 20 GND, 21 NC, 22 A16, 23 A17, 24 A18, 25 A19, 26 A20, 27 A21, 28 A22, 29 A23, 30 GND, 31 NC, 32 A24, 33 A25, 34 A26, 35 A27, 36 A28, 37 A29, 38 A30, 39 A31, 40 GND, 41 B31, 42 B30, 43 B29, 44 B28, 45 B27, 46 B26, 47 B25, 48 B24, 49 ~{OE}4, 50 VCC, 51 B23, 52 B22, 53 B21, 54 B20, 55 B19, 56 B18, 57 B17, 58 B16, 59 ~{OE}3, 60 VCC, 61 B15, 62 B14, 63 B13, 64 B12, 65 B11, 66 B10, 67 B9, 68 B8, 69 ~{OE}2, 70 VCC, 71 B7, 72 B6, 73 B5, 74 B4, 75 B3, 76 B2, 77 B1, 78 B0, 79 ~{OE}1, 80 VCC

## RTL8019AS
designator ?
pins: 1 INT3, 2 INT2, 3 INT1, 4 INT0, 5 SA0, 6 VDD, 7 SA1, 8 SA2, 9 SA3, 10 SA4, 11 SA5, 12 SA6, 13 SA7, 14 GND, 15 SA8, 16 SA9, 17 VDD, 18 SA10, 19 SA11, 20 SA12, 21 SA13, 22 SA14, 23 SA15, 24 SA16, 25 SA17, 26 SA18, 27 SA19, 28 GND, 29 IORB, 30 IOWB, 31 SMEMRB, 32 SMEMWB, 33 RSTDRV, 34 AEN, 35 IOCHRDY, 36 SD0, 37 SD1, 38 SD2, 39 SD3, 40 SD4, 41 SD5, 42 SD6, 43 SD7, 44 GND, 45 TPOUT+, 46 TPOUT-, 47 VDD, 48 TX-, 49 TX+, 50 OSC1, 51 OSC2, 52 GND, 53 CD-, 54 CD+, 55 RX-, 56 RX+, 57 VDD, 58 TPIN-, 59 TPIN+, 60 LEDBNC, 61 LED0, 62 LED1, 63 LED2, 64 AUI, 65 JP, 66 BA21, 67 BA20, 68 BA19, 69 BA18, 70 VDD, 71 BA17, 72 BA16, 73 BA15, 74 BA14, 75 BCSB, 76 EECS, 77 BD7, 78 BD6, 79 BD5, 80 BA4, 81 BD3, 82 BD2, 83 GND, 84 BD1, 85 BD0, 86 GND, 87 SD15, 88 SD14, 89 VDD, 90 SD13, 91 SD12, 92 SD11, 93 SD10, 94 SD9, 95 SD8, 96 IOCS16B, 97 INT7, 98 INT6, 99 INT5, 100 INT4

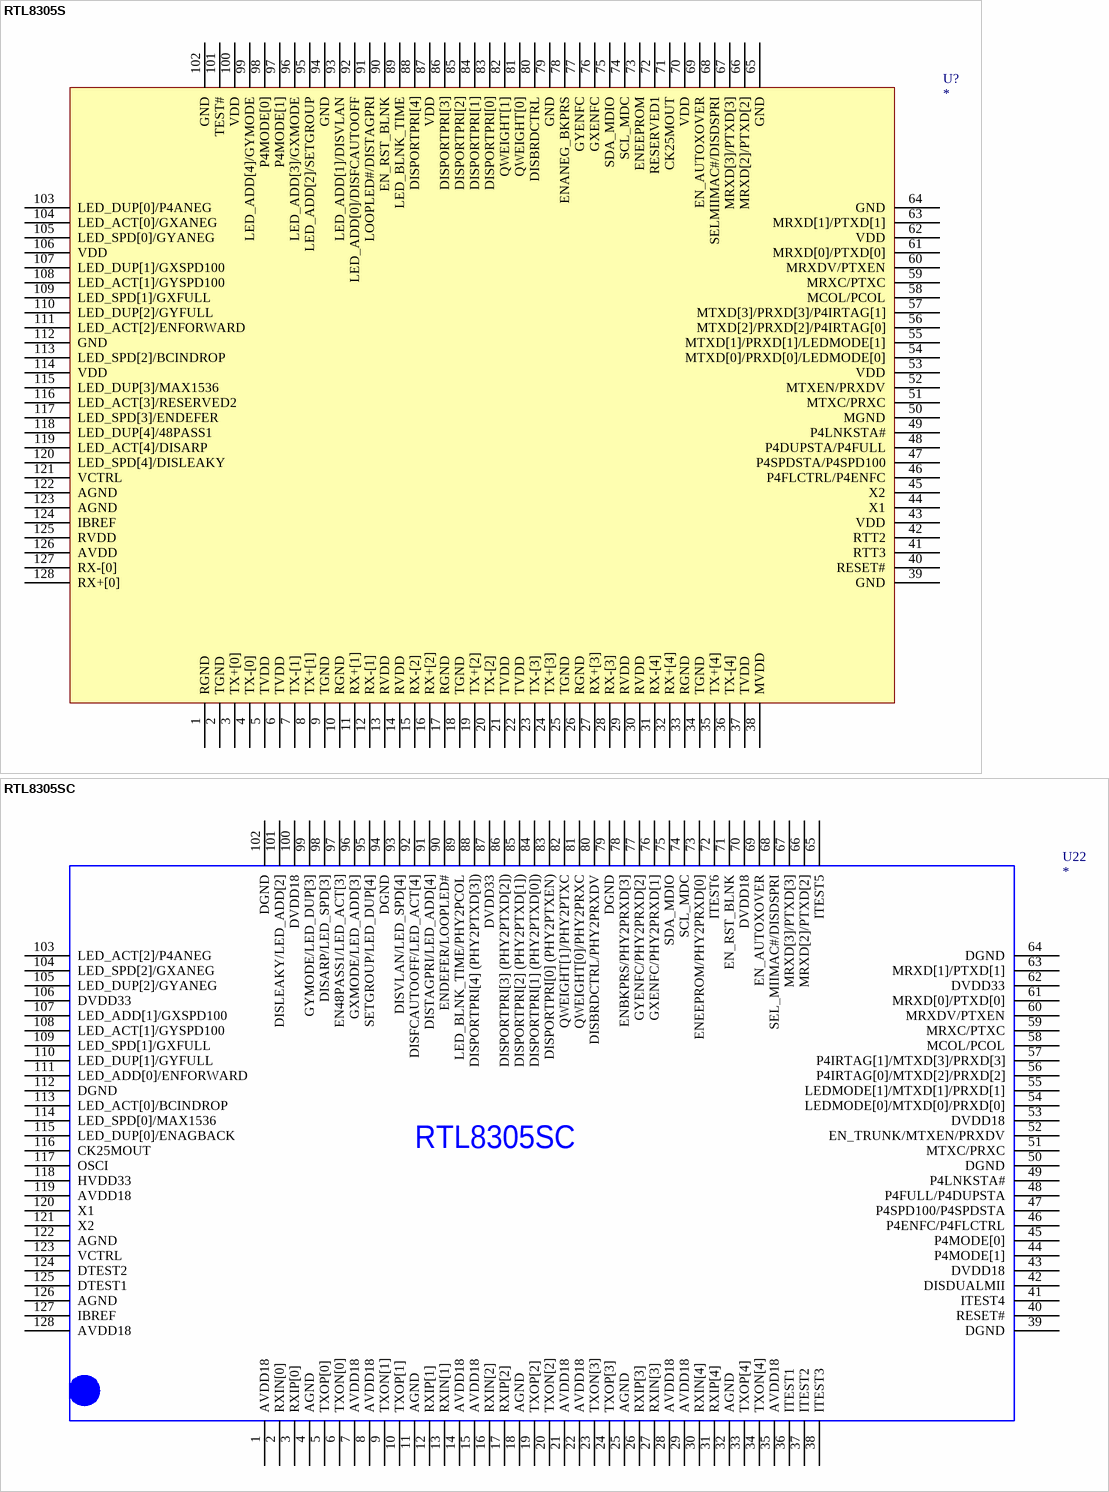
[diagram p11: symbols RTL8305S to RTL8305SC]

## RTL8305S
designator U?
Text Field1: 550; Text Field2: 410
pins: 1 RGND (power), 2 TGND (power), 3 TX+[0], 4 TX-[0], 5 TVDD (power), 6 TVDD (power), 7 TX-[1], 8 TX+[1], 9 TGND (power), 10 RGND (power), 11 RX+[1], 12 RX-[1], 13 RVDD (power), 14 RVDD (power), 15 RX-[2], 16 RX+[2], 17 RGND (power), 18 TGND (power), 19 TX+[2], 20 TX-[2], 21 TVDD (power), 22 TVDD (power), 23 TX-[3], 24 TX+[3], 25 TGND (power), 26 RGND (power), 27 RX+[3], 28 RX-[3], 29 RVDD (power), 30 RVDD (power), 31 RX-[4], 32 RX+[4], 33 RGND (power), 34 TGND (power), 35 TX+[4], 36 TX-[4], 37 TVDD (power), 38 MVDD (power), 39 GND (power), 40 RESET#, 41 RTT3, 42 RTT2, 43 VDD (power), 44 X1, 45 X2, 46 P4FLCTRL/P4ENFC, 47 P4SPDSTA/P4SPD100, 48 P4DUPSTA/P4FULL, 49 P4LNKSTA#, 50 MGND (power), 51 MTXC/PRXC, 52 MTXEN/PRXDV, 53 VDD (power), 54 MTXD[0]/PRXD[0]/LEDMODE[0], 55 MTXD[1]/PRXD[1]/LEDMODE[1], 56 MTXD[2]/PRXD[2]/P4IRTAG[0], 57 MTXD[3]/PRXD[3]/P4IRTAG[1], 58 MCOL/PCOL, 59 MRXC/PTXC, 60 MRXDV/PTXEN, 61 MRXD[0]/PTXD[0], 62 VDD (power), 63 MRXD[1]/PTXD[1], 64 GND (power), 65 GND (power), 66 MRXD[2]/PTXD[2], 67 MRXD[3]/PTXD[3], 68 SELMIIMAC#/DISDSPRI, 69 EN_AUTOXOVER, 70 VDD (power), 71 CK25MOUT, 72 RESERVED1, 73 ENEEPROM, 74 SCL_MDC, 75 SDA_MDIO, 76 GXENFC, 77 GYENFC, 78 ENANEG_BKPRS, 79 GND (power), 80 DISBRDCTRL, 81 QWEIGHT[0], 82 QWEIGHT[1], 83 DISPORTPRI[0], 84 DISPORTPRI[1], 85 DISPORTPRI[2], 86 DISPORTPRI[3], 87 VDD (power), 88 DISPORTPRI[4], 89 LED_BLNK_TIME, 90 EN_RST_BLNK, 91 LOOPLED#/DISTAGPRI, 92 LED_ADD[0]/DISFCAUTOOFF, 93 LED_ADD[1]/DISVLAN, 94 GND (power), 95 LED_ADD[2]/SETGROUP, 96 LED_ADD[3]/GXMODE, 97 P4MODE[1], 98 P4MODE[0], 99 LED_ADD[4]/GYMODE, 100 VDD (power), 101 TEST#, 102 GND (power), 103 LED_DUP[0]/P4ANEG, 104 LED_ACT[0]/GXANEG, 105 LED_SPD[0]/GYANEG, 106 VDD (power), 107 LED_DUP[1]/GXSPD100, 108 LED_ACT[1]/GYSPD100, 109 LED_SPD[1]/GXFULL, 110 LED_DUP[2]/GYFULL, 111 LED_ACT[2]/ENFORWARD, 112 GND (power), 113 LED_SPD[2]/BCINDROP, 114 VDD (power), 115 LED_DUP[3]/MAX1536, 116 LED_ACT[3]/RESERVED2, 117 LED_SPD[3]/ENDEFER, 118 LED_DUP[4]/48PASS1, 119 LED_ACT[4]/DISARP, 120 LED_SPD[4]/DISLEAKY, 121 VCTRL, 122 AGND (power), 123 AGND (power), 124 IBREF, 125 RVDD (power), 126 AVDD (power), 127 RX-[0], 128 RX+[0]